# Altium integrated library Microchip PIC24F.IntLib: 529 symbols (part 29 of 32)
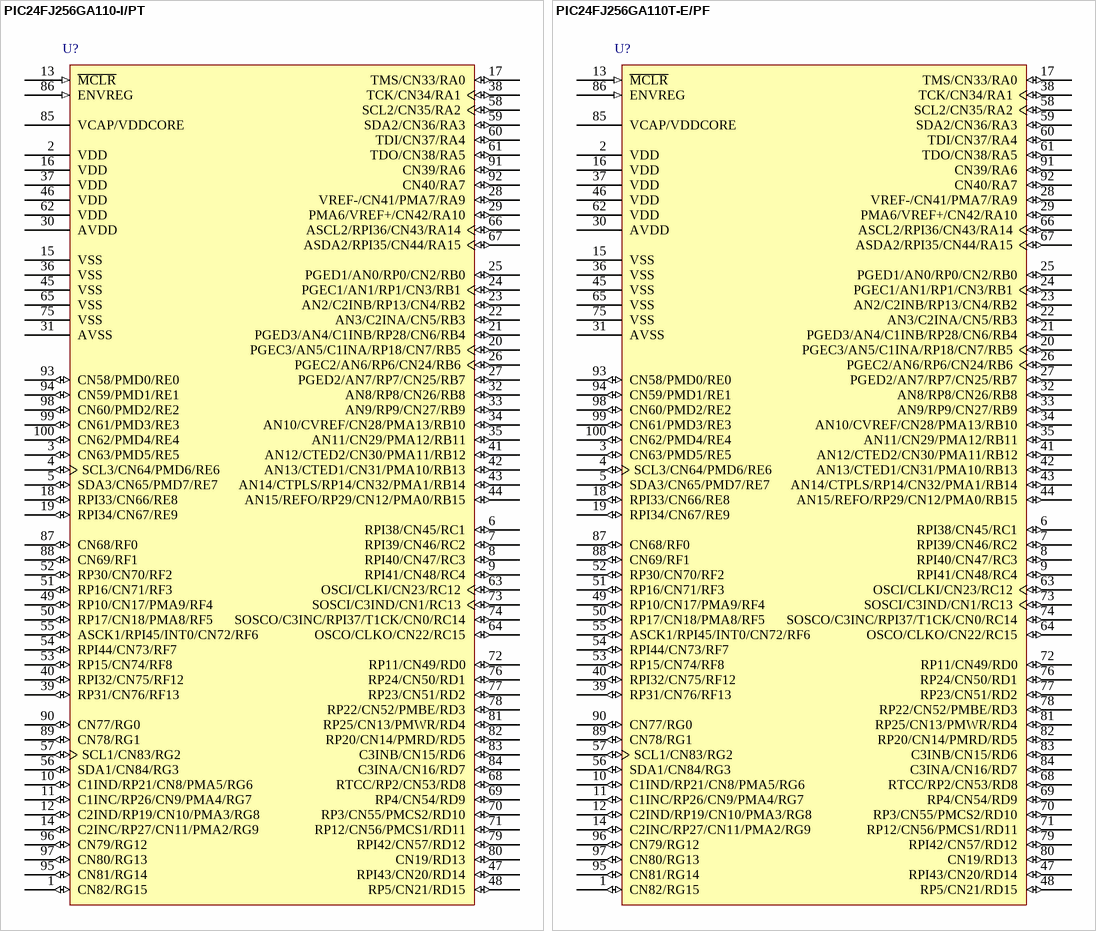
[diagram p149: symbols PIC24FJ256GA110-I/PT to PIC24FJ256GA110T-E/PF]

## PIC24FJ256GA110T-E/PF
designator U?
General Purpose 16-Bit Flash Microcontroller, 256KB Flash, 16KB SRAM, 100-Pin TQFP (14x14x1 mm), Extended Temperature, Tape and Reel; Manufacturer: Microchip; PartNumber: PIC24FJ256GA110T-E/PF; DatasheetVersion: revE, Nov-2010; PackageVersion: revBB, Aug-2009; PackageReference: TQFP-PF100; PackageDescription: 100-Lead Thin Plastic Quad Flat Pack (PF) - 14x14x1mm Body, 2.00mm [TQFP]; Mounting Technology: Surface Mount; ComponentLink1Description: Manufacturer URL; ComponentLink1URL: http://www.microchip.com/; ComponentLink2Description: Datasheet; ComponentLink2URL: http://ww1.microchip.com/downloads/en/DeviceDoc/39905d.pdf; ComponentLink3Description: Package Specification; ComponentLink3URL: http://www.microchip.com/stellent/groups/techpub_sg/documents/packagingspec/en012702.pdf
footprint TQFP-PF100_N (Thin QFP, 100-Leads, Body 14x14mm, Pitch 0.5mm, IPC Medium Density)
footprint TQFP-PF100_L (Thin QFP, 100-Leads, Body 14x14mm, Pitch 0.5mm, IPC High Density)
footprint TQFP-PF100_M (Thin QFP, 100-Leads, Body 14x14mm, Pitch 0.5mm, IPC Low Density)
pins: 1 CN82/RG15 (io), 2 VDD (power), 3 CN63/PMD5/RE5 (io), 4 SCL3/CN64/PMD6/RE6 (io), 5 SDA3/CN65/PMD7/RE7 (io), 6 RPI38/CN45/RC1 (io), 7 RPI39/CN46/RC2 (io), 8 RPI40/CN47/RC3 (io), 9 RPI41/CN48/RC4 (io), 10 C1IND/RP21/CN8/PMA5/RG6 (io), 11 C1INC/RP26/CN9/PMA4/RG7 (io), 12 C2IND/RP19/CN10/PMA3/RG8 (io), 13 ~{MCLR} (in), 14 C2INC/RP27/CN11/PMA2/RG9 (io), 15 VSS (power), 16 VDD (power), 17 TMS/CN33/RA0 (io), 18 RPI33/CN66/RE8 (io), 19 RPI34/CN67/RE9 (io), 20 PGEC3/AN5/C1INA/RP18/CN7/RB5 (io), 21 PGED3/AN4/C1INB/RP28/CN6/RB4 (io), 22 AN3/C2INA/CN5/RB3 (io), 23 AN2/C2INB/RP13/CN4/RB2 (io), 24 PGEC1/AN1/RP1/CN3/RB1 (io), 25 PGED1/AN0/RP0/CN2/RB0 (io), 26 PGEC2/AN6/RP6/CN24/RB6 (io), 27 PGED2/AN7/RP7/CN25/RB7 (io), 28 VREF-/CN41/PMA7/RA9 (io), 29 PMA6/VREF+/CN42/RA10 (io), 30 AVDD (power), 31 AVSS (power), 32 AN8/RP8/CN26/RB8 (io), 33 AN9/RP9/CN27/RB9 (io), 34 AN10/CVREF/CN28/PMA13/RB10 (io), 35 AN11/CN29/PMA12/RB11 (io), 36 VSS (power), 37 VDD (power), 38 TCK/CN34/RA1 (io), 39 RP31/CN76/RF13 (io), 40 RPI32/CN75/RF12 (io), 41 AN12/CTED2/CN30/PMA11/RB12 (io), 42 AN13/CTED1/CN31/PMA10/RB13 (io), 43 AN14/CTPLS/RP14/CN32/PMA1/RB14 (io), 44 AN15/REFO/RP29/CN12/PMA0/RB15 (io), 45 VSS (power), 46 VDD (power), 47 RPI43/CN20/RD14 (io), 48 RP5/CN21/RD15 (io), 49 RP10/CN17/PMA9/RF4 (io), 50 RP17/CN18/PMA8/RF5 (io), 51 RP16/CN71/RF3 (io), 52 RP30/CN70/RF2 (io), 53 RP15/CN74/RF8 (io), 54 RPI44/CN73/RF7 (io), 55 ASCK1/RPI45/INT0/CN72/RF6 (io), 56 SDA1/CN84/RG3 (io), 57 SCL1/CN83/RG2 (io), 58 SCL2/CN35/RA2 (io), 59 SDA2/CN36/RA3 (io), 60 TDI/CN37/RA4 (io), 61 TDO/CN38/RA5 (io), 62 VDD (power), 63 OSCI/CLKI/CN23/RC12 (io), 64 OSCO/CLKO/CN22/RC15 (io), 65 VSS (power), 66 ASCL2/RPI36/CN43/RA14 (io), 67 ASDA2/RPI35/CN44/RA15 (io), 68 RTCC/RP2/CN53/RD8 (io), 69 RP4/CN54/RD9 (io), 70 RP3/CN55/PMCS2/RD10 (io), 71 RP12/CN56/PMCS1/RD11 (io), 72 RP11/CN49/RD0 (io), 73 SOSCI/C3IND/CN1/RC13 (io), 74 SOSCO/C3INC/RPI37/T1CK/CN0/RC14 (io), 75 VSS (power), 76 RP24/CN50/RD1 (io), 77 RP23/CN51/RD2 (io), 78 RP22/CN52/PMBE/RD3 (io), 79 RPI42/CN57/RD12 (io), 80 CN19/RD13 (io), 81 RP25/CN13/PMWR/RD4 (io), 82 RP20/CN14/PMRD/RD5 (io), 83 C3INB/CN15/RD6 (io), 84 C3INA/CN16/RD7 (io), 85 VCAP/VDDCORE (power), 86 ENVREG (in), 87 CN68/RF0 (io), 88 CN69/RF1 (io), 89 CN78/RG1 (io), 90 CN77/RG0 (io), 91 CN39/RA6 (io), 92 CN40/RA7 (io), 93 CN58/PMD0/RE0 (io), 94 CN59/PMD1/RE1 (io), 95 CN81/RG14 (io), 96 CN79/RG12 (io), 97 CN80/RG13 (io), 98 CN60/PMD2/RE2 (io), 99 CN61/PMD3/RE3 (io), 100 CN62/PMD4/RE4 (io)

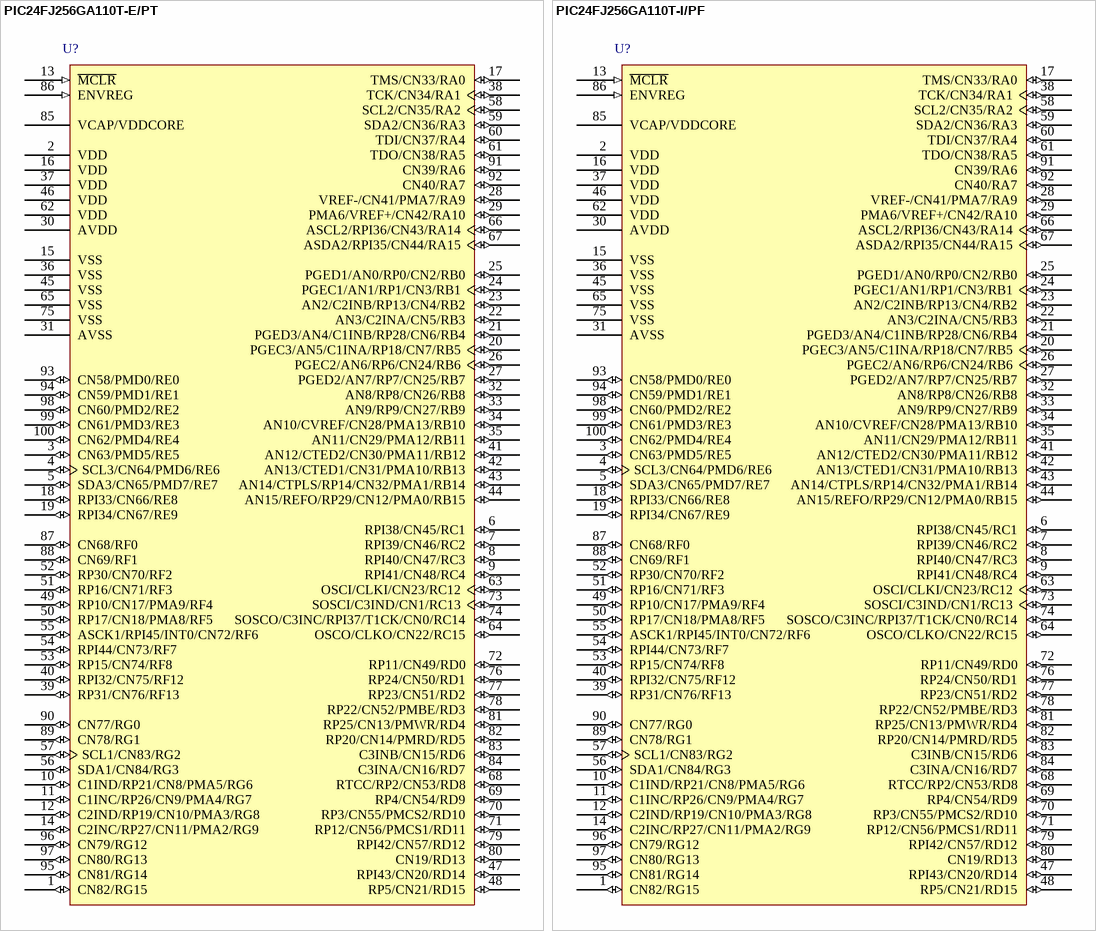
[diagram p109: symbols PIC24FJ256GA110T-E/PT to PIC24FJ256GA110T-I/PF]

## PIC24FJ256GA110T-E/PT
designator U?
General Purpose 16-Bit Flash Microcontroller, 256KB Flash, 16KB SRAM, 64-Pin TQFP, Extended Temperature, Tape and Reel; Manufacturer: Microchip; PartNumber: PIC24FJ256GA110T-E/PT; DatasheetVersion: revE, Nov-2010; PackageVersion: revBB, Aug-2009; PackageReference: TQFP-PT100; PackageDescription: 100-Lead Plastic Thin Quad Flatpack (PT) - 12x12x1mm Body, 2.00mm [TQFP]; Mounting Technology: Surface Mount; ComponentLink1Description: Manufacturer URL; ComponentLink1URL: http://www.microchip.com/; ComponentLink2Description: Datasheet; ComponentLink2URL: http://ww1.microchip.com/downloads/en/DeviceDoc/39905d.pdf; ComponentLink3Description: Package Specification; ComponentLink3URL: http://www.microchip.com/stellent/groups/techpub_sg/documents/packagingspec/en012702.pdf
footprint TQFP-PT100_N (Thin QFP, 100-Leads, Body 12x12mm, Pitch 0.4mm, IPC Medium Density)
footprint TQFP-PT100_L (Thin QFP, 100-Leads, Body 12x12mm, Pitch 0.4mm, IPC High Density)
footprint TQFP-PT100_M (Thin QFP, 100-Leads, Body 12x12mm, Pitch 0.4mm, IPC Low Density)
pins: 1 CN82/RG15 (io), 2 VDD (power), 3 CN63/PMD5/RE5 (io), 4 SCL3/CN64/PMD6/RE6 (io), 5 SDA3/CN65/PMD7/RE7 (io), 6 RPI38/CN45/RC1 (io), 7 RPI39/CN46/RC2 (io), 8 RPI40/CN47/RC3 (io), 9 RPI41/CN48/RC4 (io), 10 C1IND/RP21/CN8/PMA5/RG6 (io), 11 C1INC/RP26/CN9/PMA4/RG7 (io), 12 C2IND/RP19/CN10/PMA3/RG8 (io), 13 ~{MCLR} (in), 14 C2INC/RP27/CN11/PMA2/RG9 (io), 15 VSS (power), 16 VDD (power), 17 TMS/CN33/RA0 (io), 18 RPI33/CN66/RE8 (io), 19 RPI34/CN67/RE9 (io), 20 PGEC3/AN5/C1INA/RP18/CN7/RB5 (io), 21 PGED3/AN4/C1INB/RP28/CN6/RB4 (io), 22 AN3/C2INA/CN5/RB3 (io), 23 AN2/C2INB/RP13/CN4/RB2 (io), 24 PGEC1/AN1/RP1/CN3/RB1 (io), 25 PGED1/AN0/RP0/CN2/RB0 (io), 26 PGEC2/AN6/RP6/CN24/RB6 (io), 27 PGED2/AN7/RP7/CN25/RB7 (io), 28 VREF-/CN41/PMA7/RA9 (io), 29 PMA6/VREF+/CN42/RA10 (io), 30 AVDD (power), 31 AVSS (power), 32 AN8/RP8/CN26/RB8 (io), 33 AN9/RP9/CN27/RB9 (io), 34 AN10/CVREF/CN28/PMA13/RB10 (io), 35 AN11/CN29/PMA12/RB11 (io), 36 VSS (power), 37 VDD (power), 38 TCK/CN34/RA1 (io), 39 RP31/CN76/RF13 (io), 40 RPI32/CN75/RF12 (io), 41 AN12/CTED2/CN30/PMA11/RB12 (io), 42 AN13/CTED1/CN31/PMA10/RB13 (io), 43 AN14/CTPLS/RP14/CN32/PMA1/RB14 (io), 44 AN15/REFO/RP29/CN12/PMA0/RB15 (io), 45 VSS (power), 46 VDD (power), 47 RPI43/CN20/RD14 (io), 48 RP5/CN21/RD15 (io), 49 RP10/CN17/PMA9/RF4 (io), 50 RP17/CN18/PMA8/RF5 (io), 51 RP16/CN71/RF3 (io), 52 RP30/CN70/RF2 (io), 53 RP15/CN74/RF8 (io), 54 RPI44/CN73/RF7 (io), 55 ASCK1/RPI45/INT0/CN72/RF6 (io), 56 SDA1/CN84/RG3 (io), 57 SCL1/CN83/RG2 (io), 58 SCL2/CN35/RA2 (io), 59 SDA2/CN36/RA3 (io), 60 TDI/CN37/RA4 (io), 61 TDO/CN38/RA5 (io), 62 VDD (power), 63 OSCI/CLKI/CN23/RC12 (io), 64 OSCO/CLKO/CN22/RC15 (io), 65 VSS (power), 66 ASCL2/RPI36/CN43/RA14 (io), 67 ASDA2/RPI35/CN44/RA15 (io), 68 RTCC/RP2/CN53/RD8 (io), 69 RP4/CN54/RD9 (io), 70 RP3/CN55/PMCS2/RD10 (io), 71 RP12/CN56/PMCS1/RD11 (io), 72 RP11/CN49/RD0 (io), 73 SOSCI/C3IND/CN1/RC13 (io), 74 SOSCO/C3INC/RPI37/T1CK/CN0/RC14 (io), 75 VSS (power), 76 RP24/CN50/RD1 (io), 77 RP23/CN51/RD2 (io), 78 RP22/CN52/PMBE/RD3 (io), 79 RPI42/CN57/RD12 (io), 80 CN19/RD13 (io), 81 RP25/CN13/PMWR/RD4 (io), 82 RP20/CN14/PMRD/RD5 (io), 83 C3INB/CN15/RD6 (io), 84 C3INA/CN16/RD7 (io), 85 VCAP/VDDCORE (power), 86 ENVREG (in), 87 CN68/RF0 (io), 88 CN69/RF1 (io), 89 CN78/RG1 (io), 90 CN77/RG0 (io), 91 CN39/RA6 (io), 92 CN40/RA7 (io), 93 CN58/PMD0/RE0 (io), 94 CN59/PMD1/RE1 (io), 95 CN81/RG14 (io), 96 CN79/RG12 (io), 97 CN80/RG13 (io), 98 CN60/PMD2/RE2 (io), 99 CN61/PMD3/RE3 (io), 100 CN62/PMD4/RE4 (io)

## PIC24FJ256GA110T-I/PF
designator U?
General Purpose 16-Bit Flash Microcontroller, 256KB Flash, 16KB SRAM, 100-Pin TQFP (14x14x1 mm), Industrial Temperature, Tape and Reel; Manufacturer: Microchip; PartNumber: PIC24FJ256GA110T-I/PF; DatasheetVersion: revE, Nov-2010; PackageVersion: revBB, Aug-2009; PackageReference: TQFP-PF100; PackageDescription: 100-Lead Thin Plastic Quad Flat Pack (PF) - 14x14x1mm Body, 2.00mm [TQFP]; Supplier 1: Digi-Key; Supplier Part Number 1: PIC24FJ256GA110T-I/PFTR-ND; Supplier 2: Mouser; Supplier Part Number 2: 579-PIC2256GA110TIPF; Mounting Technology: Surface Mount; ComponentLink1Description: Manufacturer URL; ComponentLink1URL: http://www.microchip.com/; ComponentLink2Description: Datasheet; ComponentLink2URL: http://ww1.microchip.com/downloads/en/DeviceDoc/39905d.pdf; ComponentLink3Description: Package Specification; ComponentLink3URL: http://www.microchip.com/stellent/groups/techpub_sg/documents/packagingspec/en012702.pdf
footprint TQFP-PF100_N (Thin QFP, 100-Leads, Body 14x14mm, Pitch 0.5mm, IPC Medium Density)
footprint TQFP-PF100_L (Thin QFP, 100-Leads, Body 14x14mm, Pitch 0.5mm, IPC High Density)
footprint TQFP-PF100_M (Thin QFP, 100-Leads, Body 14x14mm, Pitch 0.5mm, IPC Low Density)
pins: 1 CN82/RG15 (io), 2 VDD (power), 3 CN63/PMD5/RE5 (io), 4 SCL3/CN64/PMD6/RE6 (io), 5 SDA3/CN65/PMD7/RE7 (io), 6 RPI38/CN45/RC1 (io), 7 RPI39/CN46/RC2 (io), 8 RPI40/CN47/RC3 (io), 9 RPI41/CN48/RC4 (io), 10 C1IND/RP21/CN8/PMA5/RG6 (io), 11 C1INC/RP26/CN9/PMA4/RG7 (io), 12 C2IND/RP19/CN10/PMA3/RG8 (io), 13 ~{MCLR} (in), 14 C2INC/RP27/CN11/PMA2/RG9 (io), 15 VSS (power), 16 VDD (power), 17 TMS/CN33/RA0 (io), 18 RPI33/CN66/RE8 (io), 19 RPI34/CN67/RE9 (io), 20 PGEC3/AN5/C1INA/RP18/CN7/RB5 (io), 21 PGED3/AN4/C1INB/RP28/CN6/RB4 (io), 22 AN3/C2INA/CN5/RB3 (io), 23 AN2/C2INB/RP13/CN4/RB2 (io), 24 PGEC1/AN1/RP1/CN3/RB1 (io), 25 PGED1/AN0/RP0/CN2/RB0 (io), 26 PGEC2/AN6/RP6/CN24/RB6 (io), 27 PGED2/AN7/RP7/CN25/RB7 (io), 28 VREF-/CN41/PMA7/RA9 (io), 29 PMA6/VREF+/CN42/RA10 (io), 30 AVDD (power), 31 AVSS (power), 32 AN8/RP8/CN26/RB8 (io), 33 AN9/RP9/CN27/RB9 (io), 34 AN10/CVREF/CN28/PMA13/RB10 (io), 35 AN11/CN29/PMA12/RB11 (io), 36 VSS (power), 37 VDD (power), 38 TCK/CN34/RA1 (io), 39 RP31/CN76/RF13 (io), 40 RPI32/CN75/RF12 (io), 41 AN12/CTED2/CN30/PMA11/RB12 (io), 42 AN13/CTED1/CN31/PMA10/RB13 (io), 43 AN14/CTPLS/RP14/CN32/PMA1/RB14 (io), 44 AN15/REFO/RP29/CN12/PMA0/RB15 (io), 45 VSS (power), 46 VDD (power), 47 RPI43/CN20/RD14 (io), 48 RP5/CN21/RD15 (io), 49 RP10/CN17/PMA9/RF4 (io), 50 RP17/CN18/PMA8/RF5 (io), 51 RP16/CN71/RF3 (io), 52 RP30/CN70/RF2 (io), 53 RP15/CN74/RF8 (io), 54 RPI44/CN73/RF7 (io), 55 ASCK1/RPI45/INT0/CN72/RF6 (io), 56 SDA1/CN84/RG3 (io), 57 SCL1/CN83/RG2 (io), 58 SCL2/CN35/RA2 (io), 59 SDA2/CN36/RA3 (io), 60 TDI/CN37/RA4 (io), 61 TDO/CN38/RA5 (io), 62 VDD (power), 63 OSCI/CLKI/CN23/RC12 (io), 64 OSCO/CLKO/CN22/RC15 (io), 65 VSS (power), 66 ASCL2/RPI36/CN43/RA14 (io), 67 ASDA2/RPI35/CN44/RA15 (io), 68 RTCC/RP2/CN53/RD8 (io), 69 RP4/CN54/RD9 (io), 70 RP3/CN55/PMCS2/RD10 (io), 71 RP12/CN56/PMCS1/RD11 (io), 72 RP11/CN49/RD0 (io), 73 SOSCI/C3IND/CN1/RC13 (io), 74 SOSCO/C3INC/RPI37/T1CK/CN0/RC14 (io), 75 VSS (power), 76 RP24/CN50/RD1 (io), 77 RP23/CN51/RD2 (io), 78 RP22/CN52/PMBE/RD3 (io), 79 RPI42/CN57/RD12 (io), 80 CN19/RD13 (io), 81 RP25/CN13/PMWR/RD4 (io), 82 RP20/CN14/PMRD/RD5 (io), 83 C3INB/CN15/RD6 (io), 84 C3INA/CN16/RD7 (io), 85 VCAP/VDDCORE (power), 86 ENVREG (in), 87 CN68/RF0 (io), 88 CN69/RF1 (io), 89 CN78/RG1 (io), 90 CN77/RG0 (io), 91 CN39/RA6 (io), 92 CN40/RA7 (io), 93 CN58/PMD0/RE0 (io), 94 CN59/PMD1/RE1 (io), 95 CN81/RG14 (io), 96 CN79/RG12 (io), 97 CN80/RG13 (io), 98 CN60/PMD2/RE2 (io), 99 CN61/PMD3/RE3 (io), 100 CN62/PMD4/RE4 (io)

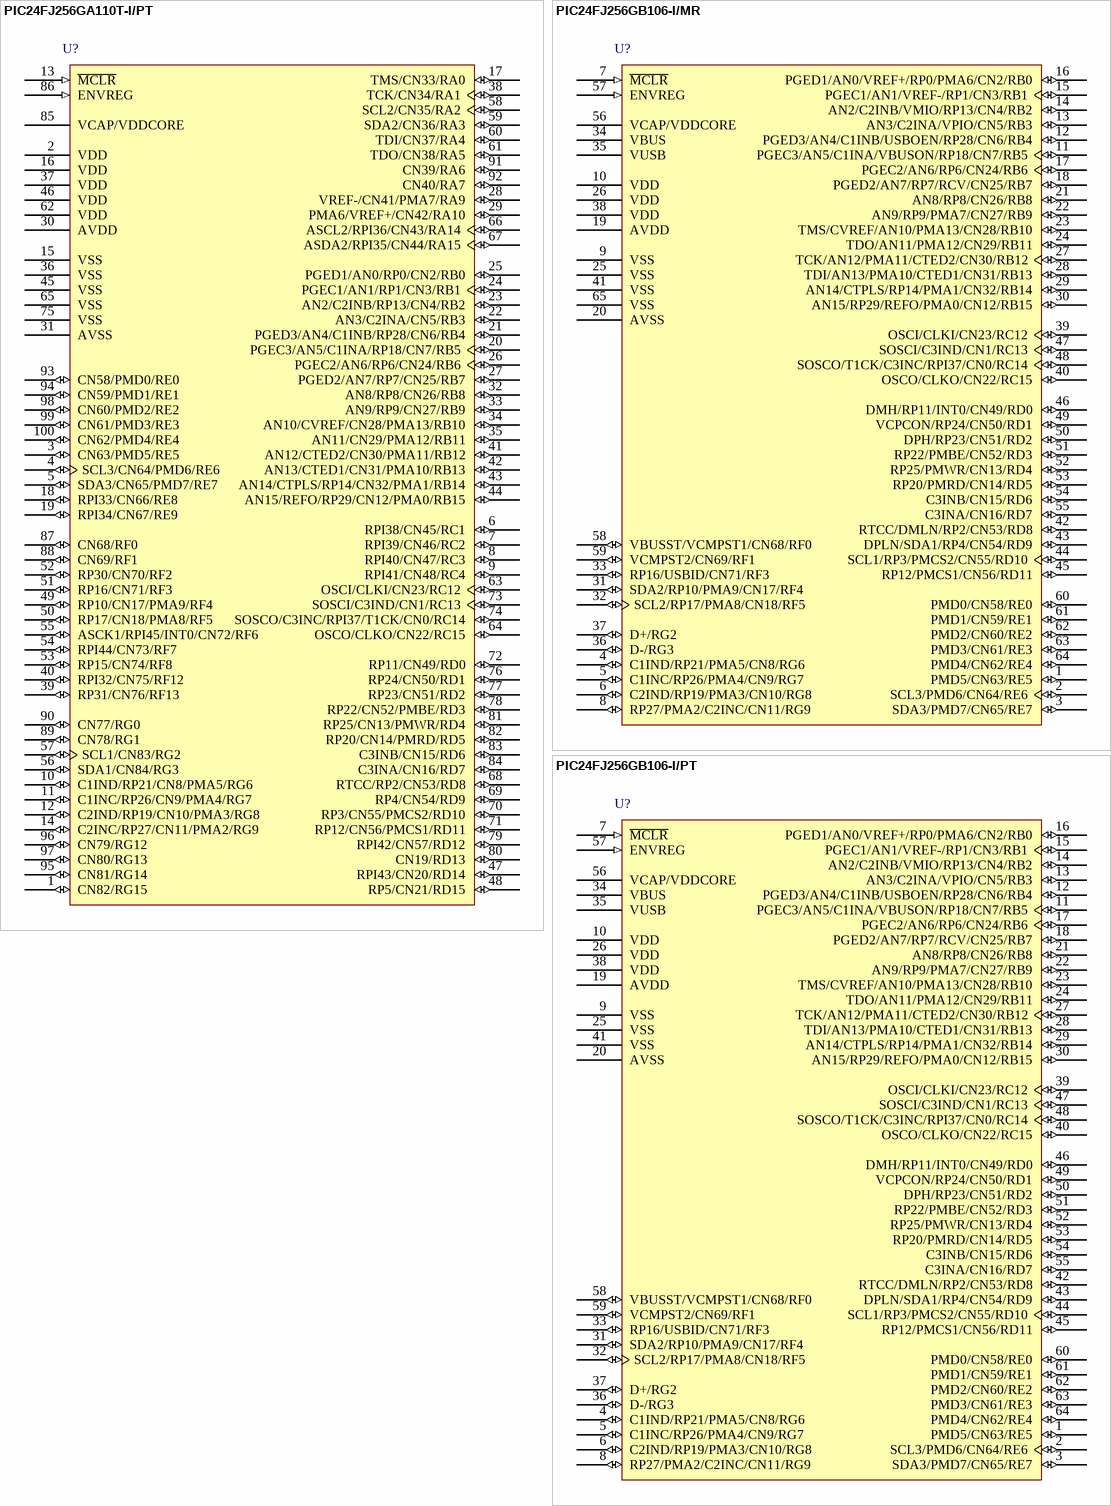
[diagram p110: symbols PIC24FJ256GA110T-I/PT to PIC24FJ256GB106-I/PT]

## PIC24FJ256GA110T-I/PT
designator U?
General Purpose 16-Bit Flash Microcontroller, 256KB Flash, 16KB SRAM, 100-Pin TQFP (12x12x1 mm), Industrial Temperature, Tape and Reel; Manufacturer: Microchip; PartNumber: PIC24FJ256GA110T-I/PT; DatasheetVersion: revE, Nov-2010; PackageVersion: revBB, Aug-2009; PackageReference: TQFP-PT100; PackageDescription: 100-Lead Plastic Thin Quad Flatpack (PT) - 12x12x1mm Body, 2.00mm [TQFP]; Supplier 1: Digi-Key; Supplier Part Number 1: PIC24FJ256GA110T-I/PTTR-ND; Supplier 2: Mouser; Supplier Part Number 2: 579-PIC2256GA110TIPT; Mounting Technology: Surface Mount; ComponentLink1Description: Manufacturer URL; ComponentLink1URL: http://www.microchip.com/; ComponentLink2Description: Datasheet; ComponentLink2URL: http://ww1.microchip.com/downloads/en/DeviceDoc/39905d.pdf; ComponentLink3Description: Package Specification; ComponentLink3URL: http://www.microchip.com/stellent/groups/techpub_sg/documents/packagingspec/en012702.pdf
footprint TQFP-PT100_N (Thin QFP, 100-Leads, Body 12x12mm, Pitch 0.4mm, IPC Medium Density)
footprint TQFP-PT100_L (Thin QFP, 100-Leads, Body 12x12mm, Pitch 0.4mm, IPC High Density)
footprint TQFP-PT100_M (Thin QFP, 100-Leads, Body 12x12mm, Pitch 0.4mm, IPC Low Density)
pins: 1 CN82/RG15 (io), 2 VDD (power), 3 CN63/PMD5/RE5 (io), 4 SCL3/CN64/PMD6/RE6 (io), 5 SDA3/CN65/PMD7/RE7 (io), 6 RPI38/CN45/RC1 (io), 7 RPI39/CN46/RC2 (io), 8 RPI40/CN47/RC3 (io), 9 RPI41/CN48/RC4 (io), 10 C1IND/RP21/CN8/PMA5/RG6 (io), 11 C1INC/RP26/CN9/PMA4/RG7 (io), 12 C2IND/RP19/CN10/PMA3/RG8 (io), 13 ~{MCLR} (in), 14 C2INC/RP27/CN11/PMA2/RG9 (io), 15 VSS (power), 16 VDD (power), 17 TMS/CN33/RA0 (io), 18 RPI33/CN66/RE8 (io), 19 RPI34/CN67/RE9 (io), 20 PGEC3/AN5/C1INA/RP18/CN7/RB5 (io), 21 PGED3/AN4/C1INB/RP28/CN6/RB4 (io), 22 AN3/C2INA/CN5/RB3 (io), 23 AN2/C2INB/RP13/CN4/RB2 (io), 24 PGEC1/AN1/RP1/CN3/RB1 (io), 25 PGED1/AN0/RP0/CN2/RB0 (io), 26 PGEC2/AN6/RP6/CN24/RB6 (io), 27 PGED2/AN7/RP7/CN25/RB7 (io), 28 VREF-/CN41/PMA7/RA9 (io), 29 PMA6/VREF+/CN42/RA10 (io), 30 AVDD (power), 31 AVSS (power), 32 AN8/RP8/CN26/RB8 (io), 33 AN9/RP9/CN27/RB9 (io), 34 AN10/CVREF/CN28/PMA13/RB10 (io), 35 AN11/CN29/PMA12/RB11 (io), 36 VSS (power), 37 VDD (power), 38 TCK/CN34/RA1 (io), 39 RP31/CN76/RF13 (io), 40 RPI32/CN75/RF12 (io), 41 AN12/CTED2/CN30/PMA11/RB12 (io), 42 AN13/CTED1/CN31/PMA10/RB13 (io), 43 AN14/CTPLS/RP14/CN32/PMA1/RB14 (io), 44 AN15/REFO/RP29/CN12/PMA0/RB15 (io), 45 VSS (power), 46 VDD (power), 47 RPI43/CN20/RD14 (io), 48 RP5/CN21/RD15 (io), 49 RP10/CN17/PMA9/RF4 (io), 50 RP17/CN18/PMA8/RF5 (io), 51 RP16/CN71/RF3 (io), 52 RP30/CN70/RF2 (io), 53 RP15/CN74/RF8 (io), 54 RPI44/CN73/RF7 (io), 55 ASCK1/RPI45/INT0/CN72/RF6 (io), 56 SDA1/CN84/RG3 (io), 57 SCL1/CN83/RG2 (io), 58 SCL2/CN35/RA2 (io), 59 SDA2/CN36/RA3 (io), 60 TDI/CN37/RA4 (io), 61 TDO/CN38/RA5 (io), 62 VDD (power), 63 OSCI/CLKI/CN23/RC12 (io), 64 OSCO/CLKO/CN22/RC15 (io), 65 VSS (power), 66 ASCL2/RPI36/CN43/RA14 (io), 67 ASDA2/RPI35/CN44/RA15 (io), 68 RTCC/RP2/CN53/RD8 (io), 69 RP4/CN54/RD9 (io), 70 RP3/CN55/PMCS2/RD10 (io), 71 RP12/CN56/PMCS1/RD11 (io), 72 RP11/CN49/RD0 (io), 73 SOSCI/C3IND/CN1/RC13 (io), 74 SOSCO/C3INC/RPI37/T1CK/CN0/RC14 (io), 75 VSS (power), 76 RP24/CN50/RD1 (io), 77 RP23/CN51/RD2 (io), 78 RP22/CN52/PMBE/RD3 (io), 79 RPI42/CN57/RD12 (io), 80 CN19/RD13 (io), 81 RP25/CN13/PMWR/RD4 (io), 82 RP20/CN14/PMRD/RD5 (io), 83 C3INB/CN15/RD6 (io), 84 C3INA/CN16/RD7 (io), 85 VCAP/VDDCORE (power), 86 ENVREG (in), 87 CN68/RF0 (io), 88 CN69/RF1 (io), 89 CN78/RG1 (io), 90 CN77/RG0 (io), 91 CN39/RA6 (io), 92 CN40/RA7 (io), 93 CN58/PMD0/RE0 (io), 94 CN59/PMD1/RE1 (io), 95 CN81/RG14 (io), 96 CN79/RG12 (io), 97 CN80/RG13 (io), 98 CN60/PMD2/RE2 (io), 99 CN61/PMD3/RE3 (io), 100 CN62/PMD4/RE4 (io)

## PIC24FJ256GB106-I/MR
designator U?
General Purpose 16-Bit Flash Microcontroller with USB On-The-Go, 256KB Flash, 16KB SRAM, 64-Pin QFN, Industrial Temperature; Manufacturer: Microchip; PartNumber: PIC24FJ256GB106-I/MR; DatasheetVersion: revC, Dec-2009; PackageVersion: revBB, Aug-2009; PackageReference: QFN-MR64; PackageDescription: 64-Lead Plastic Quad Flat, No Lead Package (MR) - 9x9x0.9 mm Body [QFN]; Supplier 1: Digi-Key; Supplier Part Number 1: PIC24FJ256GB106-I/MR-ND; Supplier 2: Farnell; Supplier Part Number 2: 1708592; Supplier 3: Newark; Supplier Part Number 3: 08R2001; Supplier 4: Mouser; Supplier Part Number 4: 579-24FJ256GB106-IMR; Mounting Technology: Surface Mount; ComponentLink1Description: Manufacturer URL; ComponentLink1URL: http://www.microchip.com/; ComponentLink2Description: Datasheet; ComponentLink2URL: http://ww1.microchip.com/downloads/en/DeviceDoc/39897c.pdf; ComponentLink3Description: Package Specification; ComponentLink3URL: http://www.microchip.com/stellent/groups/techpub_sg/documents/packagingspec/en012702.pdf
footprint QFN-MR64_N (QFN, 64-Leads, Body 9x9mm, Pitch 0.5mm, Thermal Pad 7.5x7.5mm, IPC Medium Density)
footprint QFN-MR64_L (QFN, 64-Leads, Body 9x9mm, Pitch 0.5mm, Thermal Pad 7.5x7.5mm, IPC High Density)
footprint QFN-MR64_M (QFN, 64-Leads, Body 9x9mm, Pitch 0.5mm, Thermal Pad 7.5x7.5mm, IPC Low Density)
pins: 1 PMD5/CN63/RE5 (io), 2 SCL3/PMD6/CN64/RE6 (io), 3 SDA3/PMD7/CN65/RE7 (io), 4 C1IND/RP21/PMA5/CN8/RG6 (io), 5 C1INC/RP26/PMA4/CN9/RG7 (io), 6 C2IND/RP19/PMA3/CN10/RG8 (io), 7 ~{MCLR} (in), 8 RP27/PMA2/C2INC/CN11/RG9 (io), 9 VSS (power), 10 VDD (power), 11 PGEC3/AN5/C1INA/VBUSON/RP18/CN7/RB5 (io), 12 PGED3/AN4/C1INB/USBOEN/RP28/CN6/RB4 (io), 13 AN3/C2INA/VPIO/CN5/RB3 (io), 14 AN2/C2INB/VMIO/RP13/CN4/RB2 (io), 15 PGEC1/AN1/VREF-/RP1/CN3/RB1 (io), 16 PGED1/AN0/VREF+/RP0/PMA6/CN2/RB0 (io), 17 PGEC2/AN6/RP6/CN24/RB6 (io), 18 PGED2/AN7/RP7/RCV/CN25/RB7 (io), 19 AVDD (power), 20 AVSS (power), 21 AN8/RP8/CN26/RB8 (io), 22 AN9/RP9/PMA7/CN27/RB9 (io), 23 TMS/CVREF/AN10/PMA13/CN28/RB10 (io), 24 TDO/AN11/PMA12/CN29/RB11 (io), 25 VSS (power), 26 VDD (power), 27 TCK/AN12/PMA11/CTED2/CN30/RB12 (io), 28 TDI/AN13/PMA10/CTED1/CN31/RB13 (io), 29 AN14/CTPLS/RP14/PMA1/CN32/RB14 (io), 30 AN15/RP29/REFO/PMA0/CN12/RB15 (io), 31 SDA2/RP10/PMA9/CN17/RF4 (io), 32 SCL2/RP17/PMA8/CN18/RF5 (io), 33 RP16/USBID/CN71/RF3 (io), 34 VBUS (power), 35 VUSB (power), 36 D-/RG3 (io), 37 D+/RG2 (io), 38 VDD (power), 39 OSCI/CLKI/CN23/RC12 (io), 40 OSCO/CLKO/CN22/RC15 (io), 41 VSS (power), 42 RTCC/DMLN/RP2/CN53/RD8 (io), 43 DPLN/SDA1/RP4/CN54/RD9 (io), 44 SCL1/RP3/PMCS2/CN55/RD10 (io), 45 RP12/PMCS1/CN56/RD11 (io), 46 DMH/RP11/INT0/CN49/RD0 (io), 47 SOSCI/C3IND/CN1/RC13 (io), 48 SOSCO/T1CK/C3INC/RPI37/CN0/RC14 (io), 49 VCPCON/RP24/CN50/RD1 (io), 50 DPH/RP23/CN51/RD2 (io), 51 RP22/PMBE/CN52/RD3 (io), 52 RP25/PMWR/CN13/RD4 (io), 53 RP20/PMRD/CN14/RD5 (io), 54 C3INB/CN15/RD6 (io), 55 C3INA/CN16/RD7 (io), 56 VCAP/VDDCORE (power), 57 ENVREG (in), 58 VBUSST/VCMPST1/CN68/RF0 (io), 59 VCMPST2/CN69/RF1 (io), 60 PMD0/CN58/RE0 (io), 61 PMD1/CN59/RE1 (io), 62 PMD2/CN60/RE2 (io), 63 PMD3/CN61/RE3 (io), 64 PMD4/CN62/RE4 (io), 65 VSS

## PIC24FJ256GB106-I/PT
designator U?
General Purpose 16-Bit Flash Microcontroller with USB On-The-Go, 256KB Flash, 16KB SRAM, 64-Pin TQFP, Industrial Temperature; Manufacturer: Microchip; PartNumber: PIC24FJ256GB106-I/PT; DatasheetVersion: revC, Dec-2009; PackageVersion: revBB, Aug-2009; PackageReference: TQFP-PT64; PackageDescription: 64-Lead Thin Plastic Quad Flat Pack (PT) - 10x10x1mm Body, 2.00mm [TQFP]; Supplier 1: Digi-Key; Supplier Part Number 1: PIC24FJ256GB106-I/PT-ND; Supplier 2: Farnell; Supplier Part Number 2: 1576868; Supplier 3: Farnell; Supplier Part Number 3: 1576868MPKG; Supplier 4: Newark; Supplier Part Number 4: 54M5129; Supplier 5: Mouser; Supplier Part Number 5: 579-PIC24256GB106IPT; Mounting Technology: Surface Mount; Code_JEDEC: MS-026; ComponentLink1Description: Manufacturer URL; ComponentLink1URL: http://www.microchip.com/; ComponentLink2Description: Datasheet; ComponentLink2URL: http://ww1.microchip.com/downloads/en/DeviceDoc/39897c.pdf; ComponentLink3Description: Package Specification; ComponentLink3URL: http://www.microchip.com/stellent/groups/techpub_sg/documents/packagingspec/en012702.pdf
footprint TQFP-PT64_N (Thin QFP, 64-Leads, Body 10x10mm, Pitch 0.5mm, IPC Medium Density)
footprint TQFP-PT64_L (Thin QFP, 64-Leads, Body 10x10mm, Pitch 0.5mm, IPC High Density)
footprint TQFP-PT64_M (Thin QFP, 64-Leads, Body 10x10mm, Pitch 0.5mm, IPC Low Density)
pins: 1 PMD5/CN63/RE5 (io), 2 SCL3/PMD6/CN64/RE6 (io), 3 SDA3/PMD7/CN65/RE7 (io), 4 C1IND/RP21/PMA5/CN8/RG6 (io), 5 C1INC/RP26/PMA4/CN9/RG7 (io), 6 C2IND/RP19/PMA3/CN10/RG8 (io), 7 ~{MCLR} (in), 8 RP27/PMA2/C2INC/CN11/RG9 (io), 9 VSS (power), 10 VDD (power), 11 PGEC3/AN5/C1INA/VBUSON/RP18/CN7/RB5 (io), 12 PGED3/AN4/C1INB/USBOEN/RP28/CN6/RB4 (io), 13 AN3/C2INA/VPIO/CN5/RB3 (io), 14 AN2/C2INB/VMIO/RP13/CN4/RB2 (io), 15 PGEC1/AN1/VREF-/RP1/CN3/RB1 (io), 16 PGED1/AN0/VREF+/RP0/PMA6/CN2/RB0 (io), 17 PGEC2/AN6/RP6/CN24/RB6 (io), 18 PGED2/AN7/RP7/RCV/CN25/RB7 (io), 19 AVDD (power), 20 AVSS (power), 21 AN8/RP8/CN26/RB8 (io), 22 AN9/RP9/PMA7/CN27/RB9 (io), 23 TMS/CVREF/AN10/PMA13/CN28/RB10 (io), 24 TDO/AN11/PMA12/CN29/RB11 (io), 25 VSS (power), 26 VDD (power), 27 TCK/AN12/PMA11/CTED2/CN30/RB12 (io), 28 TDI/AN13/PMA10/CTED1/CN31/RB13 (io), 29 AN14/CTPLS/RP14/PMA1/CN32/RB14 (io), 30 AN15/RP29/REFO/PMA0/CN12/RB15 (io), 31 SDA2/RP10/PMA9/CN17/RF4 (io), 32 SCL2/RP17/PMA8/CN18/RF5 (io), 33 RP16/USBID/CN71/RF3 (io), 34 VBUS (power), 35 VUSB (power), 36 D-/RG3 (io), 37 D+/RG2 (io), 38 VDD (power), 39 OSCI/CLKI/CN23/RC12 (io), 40 OSCO/CLKO/CN22/RC15 (io), 41 VSS (power), 42 RTCC/DMLN/RP2/CN53/RD8 (io), 43 DPLN/SDA1/RP4/CN54/RD9 (io), 44 SCL1/RP3/PMCS2/CN55/RD10 (io), 45 RP12/PMCS1/CN56/RD11 (io), 46 DMH/RP11/INT0/CN49/RD0 (io), 47 SOSCI/C3IND/CN1/RC13 (io), 48 SOSCO/T1CK/C3INC/RPI37/CN0/RC14 (io), 49 VCPCON/RP24/CN50/RD1 (io), 50 DPH/RP23/CN51/RD2 (io), 51 RP22/PMBE/CN52/RD3 (io), 52 RP25/PMWR/CN13/RD4 (io), 53 RP20/PMRD/CN14/RD5 (io), 54 C3INB/CN15/RD6 (io), 55 C3INA/CN16/RD7 (io), 56 VCAP/VDDCORE (power), 57 ENVREG (in), 58 VBUSST/VCMPST1/CN68/RF0 (io), 59 VCMPST2/CN69/RF1 (io), 60 PMD0/CN58/RE0 (io), 61 PMD1/CN59/RE1 (io), 62 PMD2/CN60/RE2 (io), 63 PMD3/CN61/RE3 (io), 64 PMD4/CN62/RE4 (io)

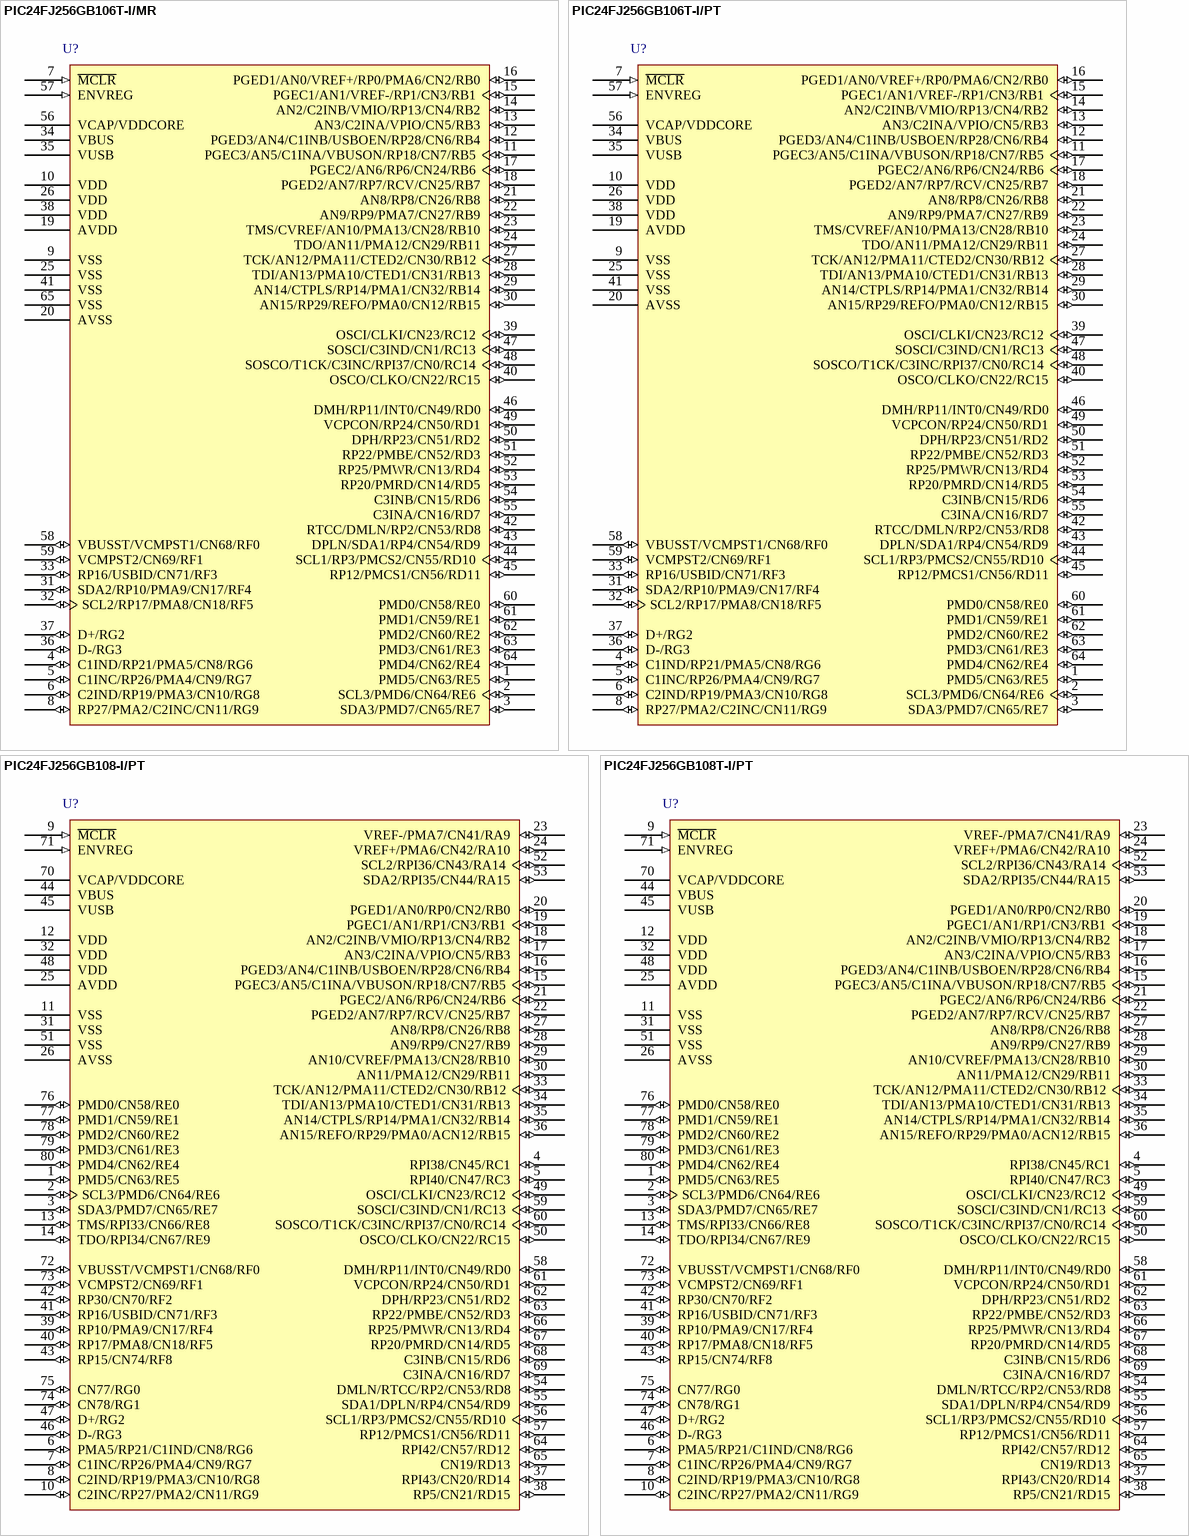
[diagram p111: symbols PIC24FJ256GB106T-I/MR to PIC24FJ256GB108T-I/PT]

## PIC24FJ256GB106T-I/MR
designator U?
General Purpose 16-Bit Flash Microcontroller with USB On-The-Go, 256KB Flash, 16KB SRAM, 64-Pin QFN, Industrial Temperature, Tape and Reel; Manufacturer: Microchip; PartNumber: PIC24FJ256GB106T-I/MR; DatasheetVersion: revC, Dec-2009; PackageVersion: revBB, Aug-2009; PackageReference: QFN-MR64; PackageDescription: 64-Lead Plastic Quad Flat, No Lead Package (MR) - 9x9x0.9 mm Body [QFN]; Mounting Technology: Surface Mount; ComponentLink1Description: Manufacturer URL; ComponentLink1URL: http://www.microchip.com/; ComponentLink2Description: Datasheet; ComponentLink2URL: http://ww1.microchip.com/downloads/en/DeviceDoc/39897c.pdf; ComponentLink3Description: Package Specification; ComponentLink3URL: http://www.microchip.com/stellent/groups/techpub_sg/documents/packagingspec/en012702.pdf
footprint QFN-MR64_N (QFN, 64-Leads, Body 9x9mm, Pitch 0.5mm, Thermal Pad 7.5x7.5mm, IPC Medium Density)
footprint QFN-MR64_L (QFN, 64-Leads, Body 9x9mm, Pitch 0.5mm, Thermal Pad 7.5x7.5mm, IPC High Density)
footprint QFN-MR64_M (QFN, 64-Leads, Body 9x9mm, Pitch 0.5mm, Thermal Pad 7.5x7.5mm, IPC Low Density)
pins: 1 PMD5/CN63/RE5 (io), 2 SCL3/PMD6/CN64/RE6 (io), 3 SDA3/PMD7/CN65/RE7 (io), 4 C1IND/RP21/PMA5/CN8/RG6 (io), 5 C1INC/RP26/PMA4/CN9/RG7 (io), 6 C2IND/RP19/PMA3/CN10/RG8 (io), 7 ~{MCLR} (in), 8 RP27/PMA2/C2INC/CN11/RG9 (io), 9 VSS (power), 10 VDD (power), 11 PGEC3/AN5/C1INA/VBUSON/RP18/CN7/RB5 (io), 12 PGED3/AN4/C1INB/USBOEN/RP28/CN6/RB4 (io), 13 AN3/C2INA/VPIO/CN5/RB3 (io), 14 AN2/C2INB/VMIO/RP13/CN4/RB2 (io), 15 PGEC1/AN1/VREF-/RP1/CN3/RB1 (io), 16 PGED1/AN0/VREF+/RP0/PMA6/CN2/RB0 (io), 17 PGEC2/AN6/RP6/CN24/RB6 (io), 18 PGED2/AN7/RP7/RCV/CN25/RB7 (io), 19 AVDD (power), 20 AVSS (power), 21 AN8/RP8/CN26/RB8 (io), 22 AN9/RP9/PMA7/CN27/RB9 (io), 23 TMS/CVREF/AN10/PMA13/CN28/RB10 (io), 24 TDO/AN11/PMA12/CN29/RB11 (io), 25 VSS (power), 26 VDD (power), 27 TCK/AN12/PMA11/CTED2/CN30/RB12 (io), 28 TDI/AN13/PMA10/CTED1/CN31/RB13 (io), 29 AN14/CTPLS/RP14/PMA1/CN32/RB14 (io), 30 AN15/RP29/REFO/PMA0/CN12/RB15 (io), 31 SDA2/RP10/PMA9/CN17/RF4 (io), 32 SCL2/RP17/PMA8/CN18/RF5 (io), 33 RP16/USBID/CN71/RF3 (io), 34 VBUS (power), 35 VUSB (power), 36 D-/RG3 (io), 37 D+/RG2 (io), 38 VDD (power), 39 OSCI/CLKI/CN23/RC12 (io), 40 OSCO/CLKO/CN22/RC15 (io), 41 VSS (power), 42 RTCC/DMLN/RP2/CN53/RD8 (io), 43 DPLN/SDA1/RP4/CN54/RD9 (io), 44 SCL1/RP3/PMCS2/CN55/RD10 (io), 45 RP12/PMCS1/CN56/RD11 (io), 46 DMH/RP11/INT0/CN49/RD0 (io), 47 SOSCI/C3IND/CN1/RC13 (io), 48 SOSCO/T1CK/C3INC/RPI37/CN0/RC14 (io), 49 VCPCON/RP24/CN50/RD1 (io), 50 DPH/RP23/CN51/RD2 (io), 51 RP22/PMBE/CN52/RD3 (io), 52 RP25/PMWR/CN13/RD4 (io), 53 RP20/PMRD/CN14/RD5 (io), 54 C3INB/CN15/RD6 (io), 55 C3INA/CN16/RD7 (io), 56 VCAP/VDDCORE (power), 57 ENVREG (in), 58 VBUSST/VCMPST1/CN68/RF0 (io), 59 VCMPST2/CN69/RF1 (io), 60 PMD0/CN58/RE0 (io), 61 PMD1/CN59/RE1 (io), 62 PMD2/CN60/RE2 (io), 63 PMD3/CN61/RE3 (io), 64 PMD4/CN62/RE4 (io), 65 VSS

## PIC24FJ256GB106T-I/PT
designator U?
General Purpose 16-Bit Flash Microcontroller with USB On-The-Go, 256KB Flash, 16KB SRAM, 64-Pin TQFP, Industrial Temperature, Tape and Reel; Manufacturer: Microchip; PartNumber: PIC24FJ256GB106T-I/PT; DatasheetVersion: revC, Dec-2009; PackageVersion: revBB, Aug-2009; PackageReference: TQFP-PT64; PackageDescription: 64-Lead Thin Plastic Quad Flat Pack (PT) - 10x10x1mm Body, 2.00mm [TQFP]; Supplier 1: Digi-Key; Supplier Part Number 1: PIC24FJ256GB106T-I/PTTR-ND; Supplier 2: Mouser; Supplier Part Number 2: 579-PIC2256GB106TIPT; Mounting Technology: Surface Mount; Code_JEDEC: MS-026; ComponentLink1Description: Manufacturer URL; ComponentLink1URL: http://www.microchip.com/; ComponentLink2Description: Datasheet; ComponentLink2URL: http://ww1.microchip.com/downloads/en/DeviceDoc/39897c.pdf; ComponentLink3Description: Package Specification; ComponentLink3URL: http://www.microchip.com/stellent/groups/techpub_sg/documents/packagingspec/en012702.pdf
footprint TQFP-PT64_N (Thin QFP, 64-Leads, Body 10x10mm, Pitch 0.5mm, IPC Medium Density)
footprint TQFP-PT64_L (Thin QFP, 64-Leads, Body 10x10mm, Pitch 0.5mm, IPC High Density)
footprint TQFP-PT64_M (Thin QFP, 64-Leads, Body 10x10mm, Pitch 0.5mm, IPC Low Density)
pins: 1 PMD5/CN63/RE5 (io), 2 SCL3/PMD6/CN64/RE6 (io), 3 SDA3/PMD7/CN65/RE7 (io), 4 C1IND/RP21/PMA5/CN8/RG6 (io), 5 C1INC/RP26/PMA4/CN9/RG7 (io), 6 C2IND/RP19/PMA3/CN10/RG8 (io), 7 ~{MCLR} (in), 8 RP27/PMA2/C2INC/CN11/RG9 (io), 9 VSS (power), 10 VDD (power), 11 PGEC3/AN5/C1INA/VBUSON/RP18/CN7/RB5 (io), 12 PGED3/AN4/C1INB/USBOEN/RP28/CN6/RB4 (io), 13 AN3/C2INA/VPIO/CN5/RB3 (io), 14 AN2/C2INB/VMIO/RP13/CN4/RB2 (io), 15 PGEC1/AN1/VREF-/RP1/CN3/RB1 (io), 16 PGED1/AN0/VREF+/RP0/PMA6/CN2/RB0 (io), 17 PGEC2/AN6/RP6/CN24/RB6 (io), 18 PGED2/AN7/RP7/RCV/CN25/RB7 (io), 19 AVDD (power), 20 AVSS (power), 21 AN8/RP8/CN26/RB8 (io), 22 AN9/RP9/PMA7/CN27/RB9 (io), 23 TMS/CVREF/AN10/PMA13/CN28/RB10 (io), 24 TDO/AN11/PMA12/CN29/RB11 (io), 25 VSS (power), 26 VDD (power), 27 TCK/AN12/PMA11/CTED2/CN30/RB12 (io), 28 TDI/AN13/PMA10/CTED1/CN31/RB13 (io), 29 AN14/CTPLS/RP14/PMA1/CN32/RB14 (io), 30 AN15/RP29/REFO/PMA0/CN12/RB15 (io), 31 SDA2/RP10/PMA9/CN17/RF4 (io), 32 SCL2/RP17/PMA8/CN18/RF5 (io), 33 RP16/USBID/CN71/RF3 (io), 34 VBUS (power), 35 VUSB (power), 36 D-/RG3 (io), 37 D+/RG2 (io), 38 VDD (power), 39 OSCI/CLKI/CN23/RC12 (io), 40 OSCO/CLKO/CN22/RC15 (io), 41 VSS (power), 42 RTCC/DMLN/RP2/CN53/RD8 (io), 43 DPLN/SDA1/RP4/CN54/RD9 (io), 44 SCL1/RP3/PMCS2/CN55/RD10 (io), 45 RP12/PMCS1/CN56/RD11 (io), 46 DMH/RP11/INT0/CN49/RD0 (io), 47 SOSCI/C3IND/CN1/RC13 (io), 48 SOSCO/T1CK/C3INC/RPI37/CN0/RC14 (io), 49 VCPCON/RP24/CN50/RD1 (io), 50 DPH/RP23/CN51/RD2 (io), 51 RP22/PMBE/CN52/RD3 (io), 52 RP25/PMWR/CN13/RD4 (io), 53 RP20/PMRD/CN14/RD5 (io), 54 C3INB/CN15/RD6 (io), 55 C3INA/CN16/RD7 (io), 56 VCAP/VDDCORE (power), 57 ENVREG (in), 58 VBUSST/VCMPST1/CN68/RF0 (io), 59 VCMPST2/CN69/RF1 (io), 60 PMD0/CN58/RE0 (io), 61 PMD1/CN59/RE1 (io), 62 PMD2/CN60/RE2 (io), 63 PMD3/CN61/RE3 (io), 64 PMD4/CN62/RE4 (io)

## PIC24FJ256GB108-I/PT
designator U?
General Purpose 16-Bit Flash Microcontroller with USB On-The-Go, 256KB Flash, 16KB SRAM, 80-Pin TQFP, Industrial Temperature; Manufacturer: Microchip; PartNumber: PIC24FJ256GB108-I/PT; DatasheetVersion: revC, Dec-2009; PackageVersion: revBB, Aug-2009; PackageReference: TQFP-PT80; PackageDescription: 80-Lead Thin Plastic Quad Flat Pack (PT) - 12x12x1mm Body, 2.00mm [TQFP]; Supplier 1: Digi-Key; Supplier Part Number 1: PIC24FJ256GB108-I/PT-ND; Supplier 2: Farnell; Supplier Part Number 2: 1576869MPKG; Supplier 3: Farnell; Supplier Part Number 3: 1576869; Supplier 4: Newark; Supplier Part Number 4: 54M5131; Supplier 5: Mouser; Supplier Part Number 5: 579-PIC24256GB108IPT; Mounting Technology: Surface Mount; Code_JEDEC: MS-026; ComponentLink1Description: Manufacturer URL; ComponentLink1URL: http://www.microchip.com/; ComponentLink2Description: Datasheet; ComponentLink2URL: http://ww1.microchip.com/downloads/en/DeviceDoc/39897c.pdf; ComponentLink3Description: Package Specification; ComponentLink3URL: http://www.microchip.com/stellent/groups/techpub_sg/documents/packagingspec/en012702.pdf
footprint TQFP-PT80_N (Thin QFP, 80-Leads, Body 12x12mm, Pitch 0.5mm, IPC Medium Density)
footprint TQFP-PT80_L (Thin QFP, 80-Leads, Body 12x12mm, Pitch 0.5mm, IPC High Density)
footprint TQFP-PT80_M (Thin QFP, 80-Leads, Body 12x12mm, Pitch 0.5mm, IPC Low Density)
pins: 1 PMD5/CN63/RE5 (io), 2 SCL3/PMD6/CN64/RE6 (io), 3 SDA3/PMD7/CN65/RE7 (io), 4 RPI38/CN45/RC1 (io), 5 RPI40/CN47/RC3 (io), 6 PMA5/RP21/C1IND/CN8/RG6 (io), 7 C1INC/RP26/PMA4/CN9/RG7 (io), 8 C2IND/RP19/PMA3/CN10/RG8 (io), 9 ~{MCLR} (in), 10 C2INC/RP27/PMA2/CN11/RG9 (io), 11 VSS (power), 12 VDD (power), 13 TMS/RPI33/CN66/RE8 (io), 14 TDO/RPI34/CN67/RE9 (io), 15 PGEC3/AN5/C1INA/VBUSON/RP18/CN7/RB5 (io), 16 PGED3/AN4/C1INB/USBOEN/RP28/CN6/RB4 (io), 17 AN3/C2INA/VPIO/CN5/RB3 (io), 18 AN2/C2INB/VMIO/RP13/CN4/RB2 (io), 19 PGEC1/AN1/RP1/CN3/RB1 (io), 20 PGED1/AN0/RP0/CN2/RB0 (io), 21 PGEC2/AN6/RP6/CN24/RB6 (io), 22 PGED2/AN7/RP7/RCV/CN25/RB7 (io), 23 VREF-/PMA7/CN41/RA9 (io), 24 VREF+/PMA6/CN42/RA10 (io), 25 AVDD (power), 26 AVSS (power), 27 AN8/RP8/CN26/RB8 (io), 28 AN9/RP9/CN27/RB9 (io), 29 AN10/CVREF/PMA13/CN28/RB10 (io), 30 AN11/PMA12/CN29/RB11 (io), 31 VSS (power), 32 VDD (power), 33 TCK/AN12/PMA11/CTED2/CN30/RB12 (io), 34 TDI/AN13/PMA10/CTED1/CN31/RB13 (io), 35 AN14/CTPLS/RP14/PMA1/CN32/RB14 (io), 36 AN15/REFO/RP29/PMA0/ACN12/RB15 (io), 37 RPI43/CN20/RD14 (io), 38 RP5/CN21/RD15 (io), 39 RP10/PMA9/CN17/RF4 (io), 40 RP17/PMA8/CN18/RF5 (io), 41 RP16/USBID/CN71/RF3 (io), 42 RP30/CN70/RF2 (io), 43 RP15/CN74/RF8 (io), 44 VBUS (power), 45 VUSB (power), 46 D-/RG3 (io), 47 D+/RG2 (io), 48 VDD (power), 49 OSCI/CLKI/CN23/RC12 (io), 50 OSCO/CLKO/CN22/RC15 (io), 51 VSS (power), 52 SCL2/RPI36/CN43/RA14 (io), 53 SDA2/RPI35/CN44/RA15 (io), 54 DMLN/RTCC/RP2/CN53/RD8 (io), 55 SDA1/DPLN/RP4/CN54/RD9 (io), 56 SCL1/RP3/PMCS2/CN55/RD10 (io), 57 RP12/PMCS1/CN56/RD11 (io), 58 DMH/RP11/INT0/CN49/RD0 (io), 59 SOSCI/C3IND/CN1/RC13 (io), 60 SOSCO/T1CK/C3INC/RPI37/CN0/RC14 (io), 61 VCPCON/RP24/CN50/RD1 (io), 62 DPH/RP23/CN51/RD2 (io), 63 RP22/PMBE/CN52/RD3 (io), 64 RPI42/CN57/RD12 (io), 65 CN19/RD13 (io), 66 RP25/PMWR/CN13/RD4 (io), 67 RP20/PMRD/CN14/RD5 (io), 68 C3INB/CN15/RD6 (io), 69 C3INA/CN16/RD7 (io), 70 VCAP/VDDCORE (power), 71 ENVREG (in), 72 VBUSST/VCMPST1/CN68/RF0 (io), 73 VCMPST2/CN69/RF1 (io), 74 CN78/RG1 (io), 75 CN77/RG0 (io), 76 PMD0/CN58/RE0 (io), 77 PMD1/CN59/RE1 (io), 78 PMD2/CN60/RE2 (io), 79 PMD3/CN61/RE3 (io), 80 PMD4/CN62/RE4 (io)

## PIC24FJ256GB108T-I/PT
designator U?
General Purpose 16-Bit Flash Microcontroller with USB On-The-Go, 256KB Flash, 16KB SRAM, 80-Pin TQFP, Industrial Temperature, Tape and Reel; Manufacturer: Microchip; PartNumber: PIC24FJ256GB108T-I/PT; DatasheetVersion: revC, Dec-2009; PackageVersion: revBB, Aug-2009; PackageReference: TQFP-PT80; PackageDescription: 80-Lead Thin Plastic Quad Flat Pack (PT) - 12x12x1mm Body, 2.00mm [TQFP]; Supplier 1: Digi-Key; Supplier Part Number 1: PIC24FJ256GB108T-I/PTTR-ND; Supplier 2: Mouser; Supplier Part Number 2: 579-PIC2256GB108TIPT; Mounting Technology: Surface Mount; Code_JEDEC: MS-026; ComponentLink1Description: Manufacturer URL; ComponentLink1URL: http://www.microchip.com/; ComponentLink2Description: Datasheet; ComponentLink2URL: http://ww1.microchip.com/downloads/en/DeviceDoc/39897c.pdf; ComponentLink3Description: Package Specification; ComponentLink3URL: http://www.microchip.com/stellent/groups/techpub_sg/documents/packagingspec/en012702.pdf
footprint TQFP-PT80_N (Thin QFP, 80-Leads, Body 12x12mm, Pitch 0.5mm, IPC Medium Density)
footprint TQFP-PT80_L (Thin QFP, 80-Leads, Body 12x12mm, Pitch 0.5mm, IPC High Density)
footprint TQFP-PT80_M (Thin QFP, 80-Leads, Body 12x12mm, Pitch 0.5mm, IPC Low Density)
pins: 1 PMD5/CN63/RE5 (io), 2 SCL3/PMD6/CN64/RE6 (io), 3 SDA3/PMD7/CN65/RE7 (io), 4 RPI38/CN45/RC1 (io), 5 RPI40/CN47/RC3 (io), 6 PMA5/RP21/C1IND/CN8/RG6 (io), 7 C1INC/RP26/PMA4/CN9/RG7 (io), 8 C2IND/RP19/PMA3/CN10/RG8 (io), 9 ~{MCLR} (in), 10 C2INC/RP27/PMA2/CN11/RG9 (io), 11 VSS (power), 12 VDD (power), 13 TMS/RPI33/CN66/RE8 (io), 14 TDO/RPI34/CN67/RE9 (io), 15 PGEC3/AN5/C1INA/VBUSON/RP18/CN7/RB5 (io), 16 PGED3/AN4/C1INB/USBOEN/RP28/CN6/RB4 (io), 17 AN3/C2INA/VPIO/CN5/RB3 (io), 18 AN2/C2INB/VMIO/RP13/CN4/RB2 (io), 19 PGEC1/AN1/RP1/CN3/RB1 (io), 20 PGED1/AN0/RP0/CN2/RB0 (io), 21 PGEC2/AN6/RP6/CN24/RB6 (io), 22 PGED2/AN7/RP7/RCV/CN25/RB7 (io), 23 VREF-/PMA7/CN41/RA9 (io), 24 VREF+/PMA6/CN42/RA10 (io), 25 AVDD (power), 26 AVSS (power), 27 AN8/RP8/CN26/RB8 (io), 28 AN9/RP9/CN27/RB9 (io), 29 AN10/CVREF/PMA13/CN28/RB10 (io), 30 AN11/PMA12/CN29/RB11 (io), 31 VSS (power), 32 VDD (power), 33 TCK/AN12/PMA11/CTED2/CN30/RB12 (io), 34 TDI/AN13/PMA10/CTED1/CN31/RB13 (io), 35 AN14/CTPLS/RP14/PMA1/CN32/RB14 (io), 36 AN15/REFO/RP29/PMA0/ACN12/RB15 (io), 37 RPI43/CN20/RD14 (io), 38 RP5/CN21/RD15 (io), 39 RP10/PMA9/CN17/RF4 (io), 40 RP17/PMA8/CN18/RF5 (io), 41 RP16/USBID/CN71/RF3 (io), 42 RP30/CN70/RF2 (io), 43 RP15/CN74/RF8 (io), 44 VBUS (power), 45 VUSB (power), 46 D-/RG3 (io), 47 D+/RG2 (io), 48 VDD (power), 49 OSCI/CLKI/CN23/RC12 (io), 50 OSCO/CLKO/CN22/RC15 (io), 51 VSS (power), 52 SCL2/RPI36/CN43/RA14 (io), 53 SDA2/RPI35/CN44/RA15 (io), 54 DMLN/RTCC/RP2/CN53/RD8 (io), 55 SDA1/DPLN/RP4/CN54/RD9 (io), 56 SCL1/RP3/PMCS2/CN55/RD10 (io), 57 RP12/PMCS1/CN56/RD11 (io), 58 DMH/RP11/INT0/CN49/RD0 (io), 59 SOSCI/C3IND/CN1/RC13 (io), 60 SOSCO/T1CK/C3INC/RPI37/CN0/RC14 (io), 61 VCPCON/RP24/CN50/RD1 (io), 62 DPH/RP23/CN51/RD2 (io), 63 RP22/PMBE/CN52/RD3 (io), 64 RPI42/CN57/RD12 (io), 65 CN19/RD13 (io), 66 RP25/PMWR/CN13/RD4 (io), 67 RP20/PMRD/CN14/RD5 (io), 68 C3INB/CN15/RD6 (io), 69 C3INA/CN16/RD7 (io), 70 VCAP/VDDCORE (power), 71 ENVREG (in), 72 VBUSST/VCMPST1/CN68/RF0 (io), 73 VCMPST2/CN69/RF1 (io), 74 CN78/RG1 (io), 75 CN77/RG0 (io), 76 PMD0/CN58/RE0 (io), 77 PMD1/CN59/RE1 (io), 78 PMD2/CN60/RE2 (io), 79 PMD3/CN61/RE3 (io), 80 PMD4/CN62/RE4 (io)

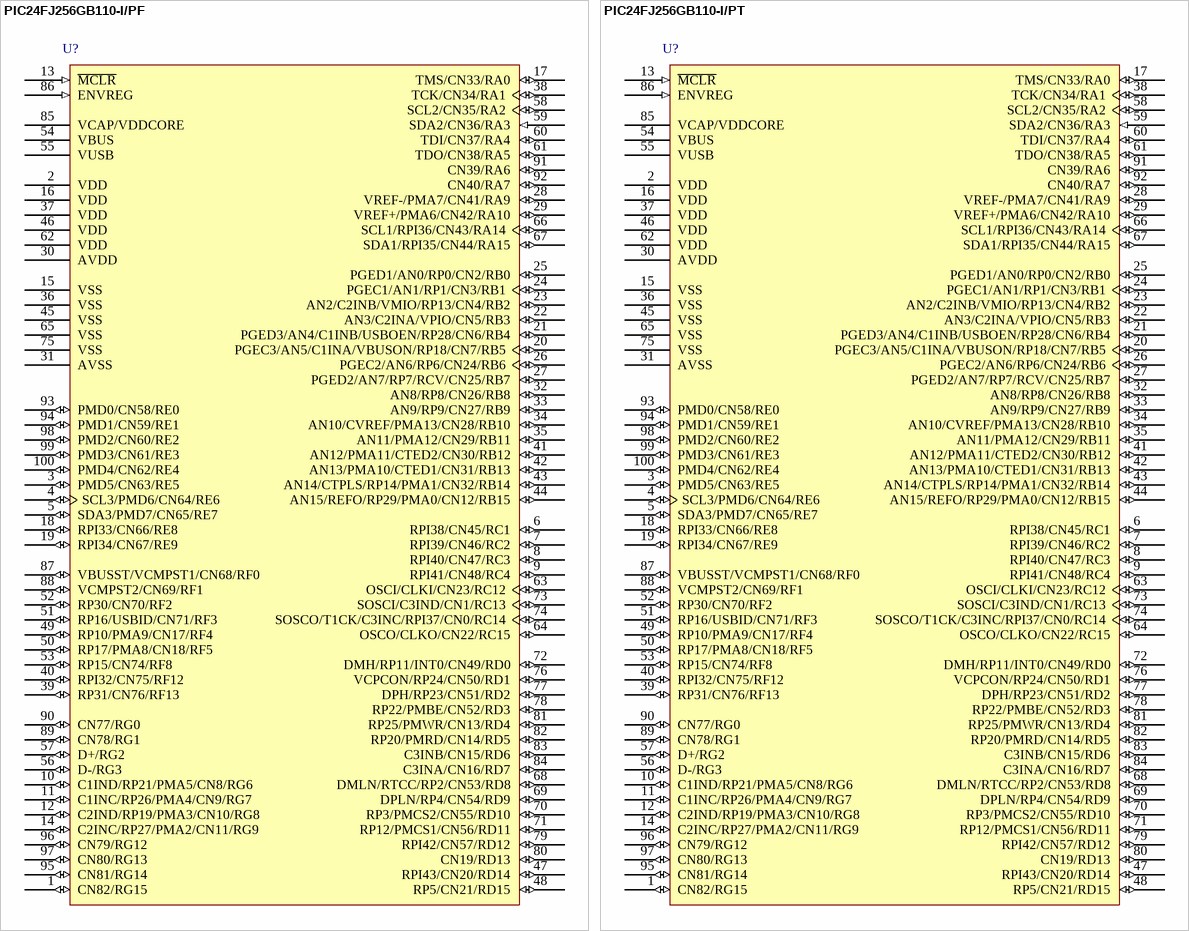
[diagram p112: symbols PIC24FJ256GB110-I/PF to PIC24FJ256GB110-I/PT]

## PIC24FJ256GB110-I/PF
designator U?
General Purpose 16-Bit Flash Microcontroller with USB On-The-Go, 256KB Flash, 16KB SRAM, 100-Pin TQFP (14x14x1 mm), Industrial Temperature; Manufacturer: Microchip; PartNumber: PIC24FJ256GB110-I/PF; DatasheetVersion: revC, Dec-2009; PackageVersion: revBB, Aug-2009; PackageReference: TQFP-PF100; PackageDescription: 100-Lead Thin Plastic Quad Flat Pack (PF) - 14x14x1mm Body, 2.00mm [TQFP]; Supplier 1: Digi-Key; Supplier Part Number 1: PIC24FJ256GB110-I/PF-ND; Supplier 2: Farnell; Supplier Part Number 2: 1576870; Supplier 3: Farnell; Supplier Part Number 3: 1576870MPKG; Supplier 4: Newark; Supplier Part Number 4: 54M5133; Supplier 5: Mouser; Supplier Part Number 5: 579-PIC24256GB110IPF; Mounting Technology: Surface Mount; ComponentLink1Description: Manufacturer URL; ComponentLink1URL: http://www.microchip.com/; ComponentLink2Description: Datasheet; ComponentLink2URL: http://ww1.microchip.com/downloads/en/DeviceDoc/39897c.pdf; ComponentLink3Description: Package Specification; ComponentLink3URL: http://www.microchip.com/stellent/groups/techpub_sg/documents/packagingspec/en012702.pdf
footprint TQFP-PF100_N (Thin QFP, 100-Leads, Body 14x14mm, Pitch 0.5mm, IPC Medium Density)
footprint TQFP-PF100_L (Thin QFP, 100-Leads, Body 14x14mm, Pitch 0.5mm, IPC High Density)
footprint TQFP-PF100_M (Thin QFP, 100-Leads, Body 14x14mm, Pitch 0.5mm, IPC Low Density)
pins: 1 CN82/RG15 (io), 2 VDD (power), 3 PMD5/CN63/RE5 (io), 4 SCL3/PMD6/CN64/RE6 (io), 5 SDA3/PMD7/CN65/RE7 (io), 6 RPI38/CN45/RC1 (io), 7 RPI39/CN46/RC2 (io), 8 RPI40/CN47/RC3 (io), 9 RPI41/CN48/RC4 (io), 10 C1IND/RP21/PMA5/CN8/RG6 (io), 11 C1INC/RP26/PMA4/CN9/RG7 (io), 12 C2IND/RP19/PMA3/CN10/RG8 (io), 13 ~{MCLR} (in), 14 C2INC/RP27/PMA2/CN11/RG9 (io), 15 VSS (power), 16 VDD (power), 17 TMS/CN33/RA0 (io), 18 RPI33/CN66/RE8 (io), 19 RPI34/CN67/RE9 (io), 20 PGEC3/AN5/C1INA/VBUSON/RP18/CN7/RB5 (io), 21 PGED3/AN4/C1INB/USBOEN/RP28/CN6/RB4 (io), 22 AN3/C2INA/VPIO/CN5/RB3 (io), 23 AN2/C2INB/VMIO/RP13/CN4/RB2 (io), 24 PGEC1/AN1/RP1/CN3/RB1 (io), 25 PGED1/AN0/RP0/CN2/RB0 (io), 26 PGEC2/AN6/RP6/CN24/RB6 (io), 27 PGED2/AN7/RP7/RCV/CN25/RB7 (io), 28 VREF-/PMA7/CN41/RA9 (io), 29 VREF+/PMA6/CN42/RA10 (io), 30 AVDD (power), 31 AVSS (power), 32 AN8/RP8/CN26/RB8 (io), 33 AN9/RP9/CN27/RB9 (io), 34 AN10/CVREF/PMA13/CN28/RB10 (io), 35 AN11/PMA12/CN29/RB11 (io), 36 VSS (power), 37 VDD (power), 38 TCK/CN34/RA1 (io), 39 RP31/CN76/RF13 (io), 40 RPI32/CN75/RF12 (io), 41 AN12/PMA11/CTED2/CN30/RB12 (io), 42 AN13/PMA10/CTED1/CN31/RB13 (io), 43 AN14/CTPLS/RP14/PMA1/CN32/RB14 (io), 44 AN15/REFO/RP29/PMA0/CN12/RB15 (io), 45 VSS (power), 46 VDD (power), 47 RPI43/CN20/RD14 (io), 48 RP5/CN21/RD15 (io), 49 RP10/PMA9/CN17/RF4 (io), 50 RP17/PMA8/CN18/RF5 (io), 51 RP16/USBID/CN71/RF3 (io), 52 RP30/CN70/RF2 (io), 53 RP15/CN74/RF8 (io), 54 VBUS (power), 55 VUSB (power), 56 D-/RG3 (io), 57 D+/RG2 (io), 58 SCL2/CN35/RA2 (io), 59 SDA2/CN36/RA3 (in), 60 TDI/CN37/RA4 (io), 61 TDO/CN38/RA5 (io), 62 VDD (power), 63 OSCI/CLKI/CN23/RC12 (io), 64 OSCO/CLKO/CN22/RC15 (io), 65 VSS (power), 66 SCL1/RPI36/CN43/RA14 (io), 67 SDA1/RPI35/CN44/RA15 (io), 68 DMLN/RTCC/RP2/CN53/RD8 (io), 69 DPLN/RP4/CN54/RD9 (io), 70 RP3/PMCS2/CN55/RD10 (io), 71 RP12/PMCS1/CN56/RD11 (io), 72 DMH/RP11/INT0/CN49/RD0 (io), 73 SOSCI/C3IND/CN1/RC13 (io), 74 SOSCO/T1CK/C3INC/RPI37/CN0/RC14 (io), 75 VSS (power), 76 VCPCON/RP24/CN50/RD1 (io), 77 DPH/RP23/CN51/RD2 (io), 78 RP22/PMBE/CN52/RD3 (io), 79 RPI42/CN57/RD12 (io), 80 CN19/RD13 (io), 81 RP25/PMWR/CN13/RD4 (io), 82 RP20/PMRD/CN14/RD5 (io), 83 C3INB/CN15/RD6 (io), 84 C3INA/CN16/RD7 (io), 85 VCAP/VDDCORE (power), 86 ENVREG (in), 87 VBUSST/VCMPST1/CN68/RF0 (io), 88 VCMPST2/CN69/RF1 (io), 89 CN78/RG1 (io), 90 CN77/RG0 (io), 91 CN39/RA6 (io), 92 CN40/RA7 (io), 93 PMD0/CN58/RE0 (io), 94 PMD1/CN59/RE1 (io), 95 CN81/RG14 (io), 96 CN79/RG12 (io), 97 CN80/RG13 (io), 98 PMD2/CN60/RE2 (io), 99 PMD3/CN61/RE3 (io), 100 PMD4/CN62/RE4 (io)

## PIC24FJ256GB110-I/PT
designator U?
General Purpose 16-Bit Flash Microcontroller with USB On-The-Go, 256KB Flash, 16KB SRAM, 100-Pin TQFP (12x12x1 mm), Industrial Temperature; Manufacturer: Microchip; PartNumber: PIC24FJ256GB110-I/PT; DatasheetVersion: revC, Dec-2009; PackageVersion: revBB, Aug-2009; PackageReference: TQFP-PT100; PackageDescription: 100-Lead Plastic Thin Quad Flatpack (PT) - 12x12x1mm Body, 2.00mm [TQFP]; Supplier 1: Digi-Key; Supplier Part Number 1: PIC24FJ256GB110-I/PT-ND; Supplier 2: Farnell; Supplier Part Number 2: 1576871MPKG; Supplier 3: Farnell; Supplier Part Number 3: 1576871; Supplier 4: Newark; Supplier Part Number 4: 54M5134; Supplier 5: Mouser; Supplier Part Number 5: 579-PIC24256GB110IPT; Mounting Technology: Surface Mount; ComponentLink1Description: Manufacturer URL; ComponentLink1URL: http://www.microchip.com/; ComponentLink2Description: Datasheet; ComponentLink2URL: http://ww1.microchip.com/downloads/en/DeviceDoc/39897c.pdf; ComponentLink3Description: Package Specification; ComponentLink3URL: http://www.microchip.com/stellent/groups/techpub_sg/documents/packagingspec/en012702.pdf
footprint TQFP-PT100_N (Thin QFP, 100-Leads, Body 12x12mm, Pitch 0.4mm, IPC Medium Density)
footprint TQFP-PT100_L (Thin QFP, 100-Leads, Body 12x12mm, Pitch 0.4mm, IPC High Density)
footprint TQFP-PT100_M (Thin QFP, 100-Leads, Body 12x12mm, Pitch 0.4mm, IPC Low Density)
pins: 1 CN82/RG15 (io), 2 VDD (power), 3 PMD5/CN63/RE5 (io), 4 SCL3/PMD6/CN64/RE6 (io), 5 SDA3/PMD7/CN65/RE7 (io), 6 RPI38/CN45/RC1 (io), 7 RPI39/CN46/RC2 (io), 8 RPI40/CN47/RC3 (io), 9 RPI41/CN48/RC4 (io), 10 C1IND/RP21/PMA5/CN8/RG6 (io), 11 C1INC/RP26/PMA4/CN9/RG7 (io), 12 C2IND/RP19/PMA3/CN10/RG8 (io), 13 ~{MCLR} (in), 14 C2INC/RP27/PMA2/CN11/RG9 (io), 15 VSS (power), 16 VDD (power), 17 TMS/CN33/RA0 (io), 18 RPI33/CN66/RE8 (io), 19 RPI34/CN67/RE9 (io), 20 PGEC3/AN5/C1INA/VBUSON/RP18/CN7/RB5 (io), 21 PGED3/AN4/C1INB/USBOEN/RP28/CN6/RB4 (io), 22 AN3/C2INA/VPIO/CN5/RB3 (io), 23 AN2/C2INB/VMIO/RP13/CN4/RB2 (io), 24 PGEC1/AN1/RP1/CN3/RB1 (io), 25 PGED1/AN0/RP0/CN2/RB0 (io), 26 PGEC2/AN6/RP6/CN24/RB6 (io), 27 PGED2/AN7/RP7/RCV/CN25/RB7 (io), 28 VREF-/PMA7/CN41/RA9 (io), 29 VREF+/PMA6/CN42/RA10 (io), 30 AVDD (power), 31 AVSS (power), 32 AN8/RP8/CN26/RB8 (io), 33 AN9/RP9/CN27/RB9 (io), 34 AN10/CVREF/PMA13/CN28/RB10 (io), 35 AN11/PMA12/CN29/RB11 (io), 36 VSS (power), 37 VDD (power), 38 TCK/CN34/RA1 (io), 39 RP31/CN76/RF13 (io), 40 RPI32/CN75/RF12 (io), 41 AN12/PMA11/CTED2/CN30/RB12 (io), 42 AN13/PMA10/CTED1/CN31/RB13 (io), 43 AN14/CTPLS/RP14/PMA1/CN32/RB14 (io), 44 AN15/REFO/RP29/PMA0/CN12/RB15 (io), 45 VSS (power), 46 VDD (power), 47 RPI43/CN20/RD14 (io), 48 RP5/CN21/RD15 (io), 49 RP10/PMA9/CN17/RF4 (io), 50 RP17/PMA8/CN18/RF5 (io), 51 RP16/USBID/CN71/RF3 (io), 52 RP30/CN70/RF2 (io), 53 RP15/CN74/RF8 (io), 54 VBUS (power), 55 VUSB (power), 56 D-/RG3 (io), 57 D+/RG2 (io), 58 SCL2/CN35/RA2 (io), 59 SDA2/CN36/RA3 (in), 60 TDI/CN37/RA4 (io), 61 TDO/CN38/RA5 (io), 62 VDD (power), 63 OSCI/CLKI/CN23/RC12 (io), 64 OSCO/CLKO/CN22/RC15 (io), 65 VSS (power), 66 SCL1/RPI36/CN43/RA14 (io), 67 SDA1/RPI35/CN44/RA15 (io), 68 DMLN/RTCC/RP2/CN53/RD8 (io), 69 DPLN/RP4/CN54/RD9 (io), 70 RP3/PMCS2/CN55/RD10 (io), 71 RP12/PMCS1/CN56/RD11 (io), 72 DMH/RP11/INT0/CN49/RD0 (io), 73 SOSCI/C3IND/CN1/RC13 (io), 74 SOSCO/T1CK/C3INC/RPI37/CN0/RC14 (io), 75 VSS (power), 76 VCPCON/RP24/CN50/RD1 (io), 77 DPH/RP23/CN51/RD2 (io), 78 RP22/PMBE/CN52/RD3 (io), 79 RPI42/CN57/RD12 (io), 80 CN19/RD13 (io), 81 RP25/PMWR/CN13/RD4 (io), 82 RP20/PMRD/CN14/RD5 (io), 83 C3INB/CN15/RD6 (io), 84 C3INA/CN16/RD7 (io), 85 VCAP/VDDCORE (power), 86 ENVREG (in), 87 VBUSST/VCMPST1/CN68/RF0 (io), 88 VCMPST2/CN69/RF1 (io), 89 CN78/RG1 (io), 90 CN77/RG0 (io), 91 CN39/RA6 (io), 92 CN40/RA7 (io), 93 PMD0/CN58/RE0 (io), 94 PMD1/CN59/RE1 (io), 95 CN81/RG14 (io), 96 CN79/RG12 (io), 97 CN80/RG13 (io), 98 PMD2/CN60/RE2 (io), 99 PMD3/CN61/RE3 (io), 100 PMD4/CN62/RE4 (io)

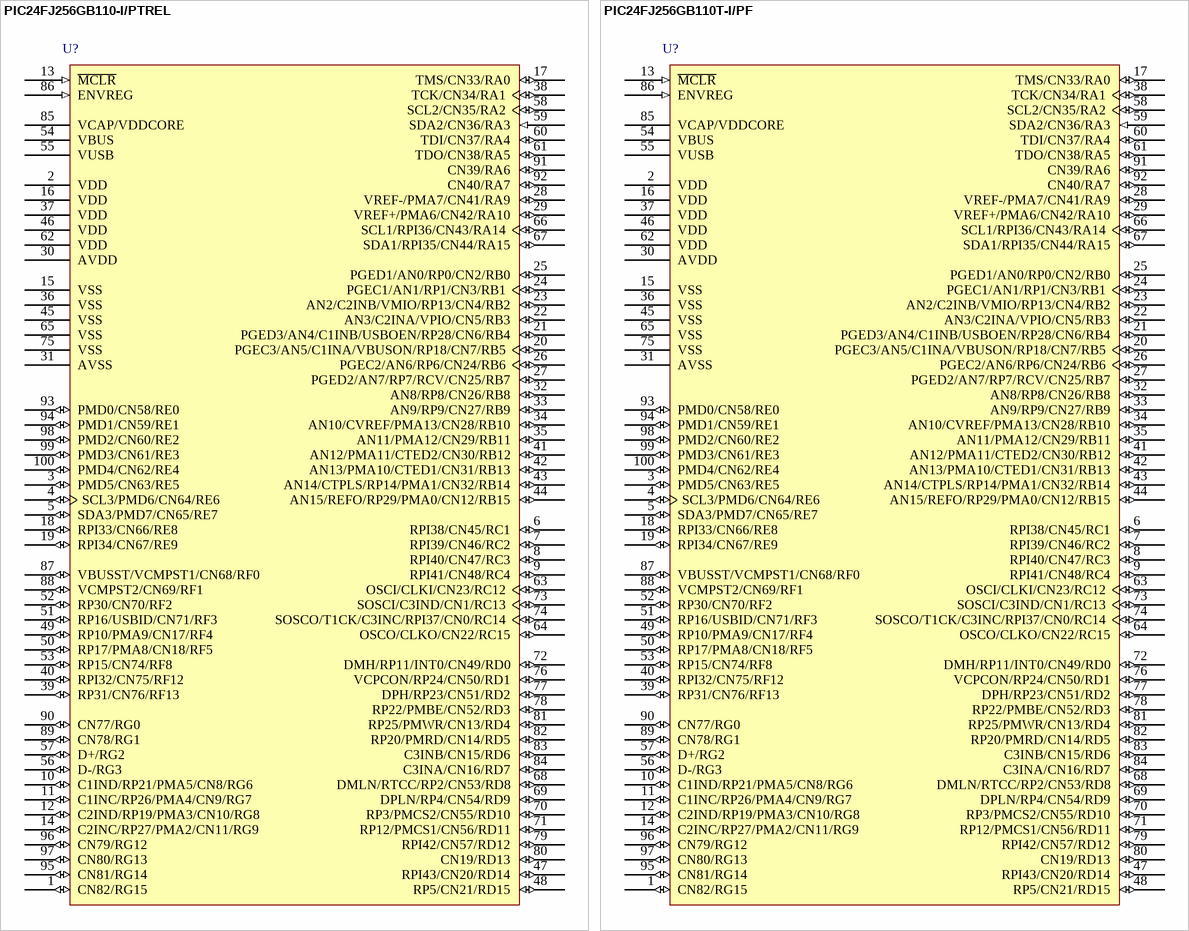
[diagram p113: symbols PIC24FJ256GB110-I/PTREL to PIC24FJ256GB110T-I/PF]

## PIC24FJ256GB110-I/PTREL
designator U?
General Purpose 16-Bit Flash Microcontroller with USB On-The-Go, 256KB Flash, 16KB SRAM, 100-Pin TQFP (12x12x1 mm), Industrial Temperature; Manufacturer: Microchip; PartNumber: PIC24FJ256GB110-I/PTREL; DatasheetVersion: revC, Dec-2009; PackageVersion: revBB, Aug-2009; PackageReference: TQFP-PT100; PackageDescription: 100-Lead Plastic Thin Quad Flatpack (PT) - 12x12x1mm Body, 2.00mm [TQFP]; Mounting Technology: Surface Mount; ComponentLink1Description: Manufacturer URL; ComponentLink1URL: http://www.microchip.com/; ComponentLink2Description: Datasheet; ComponentLink2URL: http://ww1.microchip.com/downloads/en/DeviceDoc/39897c.pdf; ComponentLink3Description: Package Specification; ComponentLink3URL: http://www.microchip.com/stellent/groups/techpub_sg/documents/packagingspec/en012702.pdf
footprint TQFP-PT100_N (Thin QFP, 100-Leads, Body 12x12mm, Pitch 0.4mm, IPC Medium Density)
footprint TQFP-PT100_L (Thin QFP, 100-Leads, Body 12x12mm, Pitch 0.4mm, IPC High Density)
footprint TQFP-PT100_M (Thin QFP, 100-Leads, Body 12x12mm, Pitch 0.4mm, IPC Low Density)
pins: 1 CN82/RG15 (io), 2 VDD (power), 3 PMD5/CN63/RE5 (io), 4 SCL3/PMD6/CN64/RE6 (io), 5 SDA3/PMD7/CN65/RE7 (io), 6 RPI38/CN45/RC1 (io), 7 RPI39/CN46/RC2 (io), 8 RPI40/CN47/RC3 (io), 9 RPI41/CN48/RC4 (io), 10 C1IND/RP21/PMA5/CN8/RG6 (io), 11 C1INC/RP26/PMA4/CN9/RG7 (io), 12 C2IND/RP19/PMA3/CN10/RG8 (io), 13 ~{MCLR} (in), 14 C2INC/RP27/PMA2/CN11/RG9 (io), 15 VSS (power), 16 VDD (power), 17 TMS/CN33/RA0 (io), 18 RPI33/CN66/RE8 (io), 19 RPI34/CN67/RE9 (io), 20 PGEC3/AN5/C1INA/VBUSON/RP18/CN7/RB5 (io), 21 PGED3/AN4/C1INB/USBOEN/RP28/CN6/RB4 (io), 22 AN3/C2INA/VPIO/CN5/RB3 (io), 23 AN2/C2INB/VMIO/RP13/CN4/RB2 (io), 24 PGEC1/AN1/RP1/CN3/RB1 (io), 25 PGED1/AN0/RP0/CN2/RB0 (io), 26 PGEC2/AN6/RP6/CN24/RB6 (io), 27 PGED2/AN7/RP7/RCV/CN25/RB7 (io), 28 VREF-/PMA7/CN41/RA9 (io), 29 VREF+/PMA6/CN42/RA10 (io), 30 AVDD (power), 31 AVSS (power), 32 AN8/RP8/CN26/RB8 (io), 33 AN9/RP9/CN27/RB9 (io), 34 AN10/CVREF/PMA13/CN28/RB10 (io), 35 AN11/PMA12/CN29/RB11 (io), 36 VSS (power), 37 VDD (power), 38 TCK/CN34/RA1 (io), 39 RP31/CN76/RF13 (io), 40 RPI32/CN75/RF12 (io), 41 AN12/PMA11/CTED2/CN30/RB12 (io), 42 AN13/PMA10/CTED1/CN31/RB13 (io), 43 AN14/CTPLS/RP14/PMA1/CN32/RB14 (io), 44 AN15/REFO/RP29/PMA0/CN12/RB15 (io), 45 VSS (power), 46 VDD (power), 47 RPI43/CN20/RD14 (io), 48 RP5/CN21/RD15 (io), 49 RP10/PMA9/CN17/RF4 (io), 50 RP17/PMA8/CN18/RF5 (io), 51 RP16/USBID/CN71/RF3 (io), 52 RP30/CN70/RF2 (io), 53 RP15/CN74/RF8 (io), 54 VBUS (power), 55 VUSB (power), 56 D-/RG3 (io), 57 D+/RG2 (io), 58 SCL2/CN35/RA2 (io), 59 SDA2/CN36/RA3 (in), 60 TDI/CN37/RA4 (io), 61 TDO/CN38/RA5 (io), 62 VDD (power), 63 OSCI/CLKI/CN23/RC12 (io), 64 OSCO/CLKO/CN22/RC15 (io), 65 VSS (power), 66 SCL1/RPI36/CN43/RA14 (io), 67 SDA1/RPI35/CN44/RA15 (io), 68 DMLN/RTCC/RP2/CN53/RD8 (io), 69 DPLN/RP4/CN54/RD9 (io), 70 RP3/PMCS2/CN55/RD10 (io), 71 RP12/PMCS1/CN56/RD11 (io), 72 DMH/RP11/INT0/CN49/RD0 (io), 73 SOSCI/C3IND/CN1/RC13 (io), 74 SOSCO/T1CK/C3INC/RPI37/CN0/RC14 (io), 75 VSS (power), 76 VCPCON/RP24/CN50/RD1 (io), 77 DPH/RP23/CN51/RD2 (io), 78 RP22/PMBE/CN52/RD3 (io), 79 RPI42/CN57/RD12 (io), 80 CN19/RD13 (io), 81 RP25/PMWR/CN13/RD4 (io), 82 RP20/PMRD/CN14/RD5 (io), 83 C3INB/CN15/RD6 (io), 84 C3INA/CN16/RD7 (io), 85 VCAP/VDDCORE (power), 86 ENVREG (in), 87 VBUSST/VCMPST1/CN68/RF0 (io), 88 VCMPST2/CN69/RF1 (io), 89 CN78/RG1 (io), 90 CN77/RG0 (io), 91 CN39/RA6 (io), 92 CN40/RA7 (io), 93 PMD0/CN58/RE0 (io), 94 PMD1/CN59/RE1 (io), 95 CN81/RG14 (io), 96 CN79/RG12 (io), 97 CN80/RG13 (io), 98 PMD2/CN60/RE2 (io), 99 PMD3/CN61/RE3 (io), 100 PMD4/CN62/RE4 (io)

## PIC24FJ256GB110T-I/PF
designator U?
General Purpose 16-Bit Flash Microcontroller with USB On-The-Go, 256KB Flash, 16KB SRAM, 100-Pin TQFP (14x14x1 mm), Industrial Temperature, Tape and Reel; Manufacturer: Microchip; PartNumber: PIC24FJ256GB110T-I/PF; DatasheetVersion: revC, Dec-2009; PackageVersion: revBB, Aug-2009; PackageReference: TQFP-PF100; PackageDescription: 100-Lead Thin Plastic Quad Flat Pack (PF) - 14x14x1mm Body, 2.00mm [TQFP]; Supplier 1: Digi-Key; Supplier Part Number 1: PIC24FJ256GB110T-I/PFTR-ND; Supplier 2: Mouser; Supplier Part Number 2: 579-PIC2256GB110TIPF; Mounting Technology: Surface Mount; ComponentLink1Description: Manufacturer URL; ComponentLink1URL: http://www.microchip.com/; ComponentLink2Description: Datasheet; ComponentLink2URL: http://ww1.microchip.com/downloads/en/DeviceDoc/39897c.pdf; ComponentLink3Description: Package Specification; ComponentLink3URL: http://www.microchip.com/stellent/groups/techpub_sg/documents/packagingspec/en012702.pdf
footprint TQFP-PF100_N (Thin QFP, 100-Leads, Body 14x14mm, Pitch 0.5mm, IPC Medium Density)
footprint TQFP-PF100_L (Thin QFP, 100-Leads, Body 14x14mm, Pitch 0.5mm, IPC High Density)
footprint TQFP-PF100_M (Thin QFP, 100-Leads, Body 14x14mm, Pitch 0.5mm, IPC Low Density)
pins: 1 CN82/RG15 (io), 2 VDD (power), 3 PMD5/CN63/RE5 (io), 4 SCL3/PMD6/CN64/RE6 (io), 5 SDA3/PMD7/CN65/RE7 (io), 6 RPI38/CN45/RC1 (io), 7 RPI39/CN46/RC2 (io), 8 RPI40/CN47/RC3 (io), 9 RPI41/CN48/RC4 (io), 10 C1IND/RP21/PMA5/CN8/RG6 (io), 11 C1INC/RP26/PMA4/CN9/RG7 (io), 12 C2IND/RP19/PMA3/CN10/RG8 (io), 13 ~{MCLR} (in), 14 C2INC/RP27/PMA2/CN11/RG9 (io), 15 VSS (power), 16 VDD (power), 17 TMS/CN33/RA0 (io), 18 RPI33/CN66/RE8 (io), 19 RPI34/CN67/RE9 (io), 20 PGEC3/AN5/C1INA/VBUSON/RP18/CN7/RB5 (io), 21 PGED3/AN4/C1INB/USBOEN/RP28/CN6/RB4 (io), 22 AN3/C2INA/VPIO/CN5/RB3 (io), 23 AN2/C2INB/VMIO/RP13/CN4/RB2 (io), 24 PGEC1/AN1/RP1/CN3/RB1 (io), 25 PGED1/AN0/RP0/CN2/RB0 (io), 26 PGEC2/AN6/RP6/CN24/RB6 (io), 27 PGED2/AN7/RP7/RCV/CN25/RB7 (io), 28 VREF-/PMA7/CN41/RA9 (io), 29 VREF+/PMA6/CN42/RA10 (io), 30 AVDD (power), 31 AVSS (power), 32 AN8/RP8/CN26/RB8 (io), 33 AN9/RP9/CN27/RB9 (io), 34 AN10/CVREF/PMA13/CN28/RB10 (io), 35 AN11/PMA12/CN29/RB11 (io), 36 VSS (power), 37 VDD (power), 38 TCK/CN34/RA1 (io), 39 RP31/CN76/RF13 (io), 40 RPI32/CN75/RF12 (io), 41 AN12/PMA11/CTED2/CN30/RB12 (io), 42 AN13/PMA10/CTED1/CN31/RB13 (io), 43 AN14/CTPLS/RP14/PMA1/CN32/RB14 (io), 44 AN15/REFO/RP29/PMA0/CN12/RB15 (io), 45 VSS (power), 46 VDD (power), 47 RPI43/CN20/RD14 (io), 48 RP5/CN21/RD15 (io), 49 RP10/PMA9/CN17/RF4 (io), 50 RP17/PMA8/CN18/RF5 (io), 51 RP16/USBID/CN71/RF3 (io), 52 RP30/CN70/RF2 (io), 53 RP15/CN74/RF8 (io), 54 VBUS (power), 55 VUSB (power), 56 D-/RG3 (io), 57 D+/RG2 (io), 58 SCL2/CN35/RA2 (io), 59 SDA2/CN36/RA3 (in), 60 TDI/CN37/RA4 (io), 61 TDO/CN38/RA5 (io), 62 VDD (power), 63 OSCI/CLKI/CN23/RC12 (io), 64 OSCO/CLKO/CN22/RC15 (io), 65 VSS (power), 66 SCL1/RPI36/CN43/RA14 (io), 67 SDA1/RPI35/CN44/RA15 (io), 68 DMLN/RTCC/RP2/CN53/RD8 (io), 69 DPLN/RP4/CN54/RD9 (io), 70 RP3/PMCS2/CN55/RD10 (io), 71 RP12/PMCS1/CN56/RD11 (io), 72 DMH/RP11/INT0/CN49/RD0 (io), 73 SOSCI/C3IND/CN1/RC13 (io), 74 SOSCO/T1CK/C3INC/RPI37/CN0/RC14 (io), 75 VSS (power), 76 VCPCON/RP24/CN50/RD1 (io), 77 DPH/RP23/CN51/RD2 (io), 78 RP22/PMBE/CN52/RD3 (io), 79 RPI42/CN57/RD12 (io), 80 CN19/RD13 (io), 81 RP25/PMWR/CN13/RD4 (io), 82 RP20/PMRD/CN14/RD5 (io), 83 C3INB/CN15/RD6 (io), 84 C3INA/CN16/RD7 (io), 85 VCAP/VDDCORE (power), 86 ENVREG (in), 87 VBUSST/VCMPST1/CN68/RF0 (io), 88 VCMPST2/CN69/RF1 (io), 89 CN78/RG1 (io), 90 CN77/RG0 (io), 91 CN39/RA6 (io), 92 CN40/RA7 (io), 93 PMD0/CN58/RE0 (io), 94 PMD1/CN59/RE1 (io), 95 CN81/RG14 (io), 96 CN79/RG12 (io), 97 CN80/RG13 (io), 98 PMD2/CN60/RE2 (io), 99 PMD3/CN61/RE3 (io), 100 PMD4/CN62/RE4 (io)

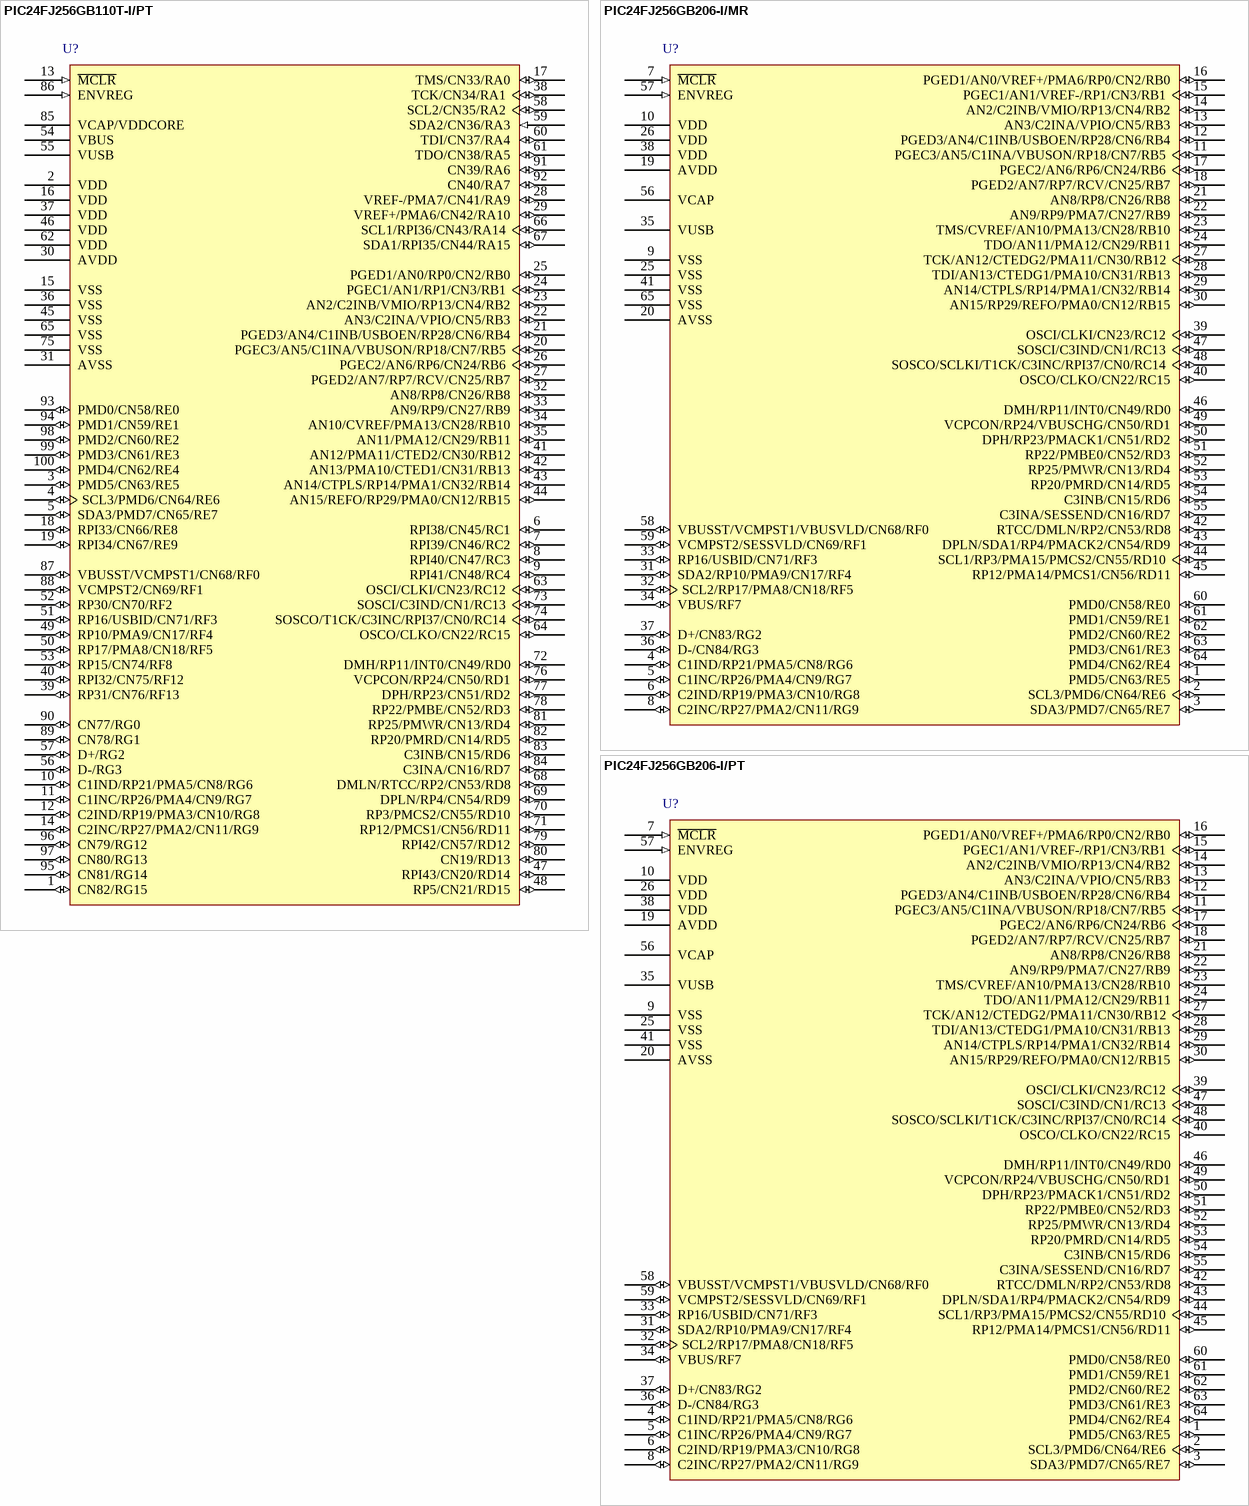
[diagram p114: symbols PIC24FJ256GB110T-I/PT to PIC24FJ256GB206-I/PT]